# Altium schematic symbol library 20210518.SchLib: 325 symbols (part 2 of 3)
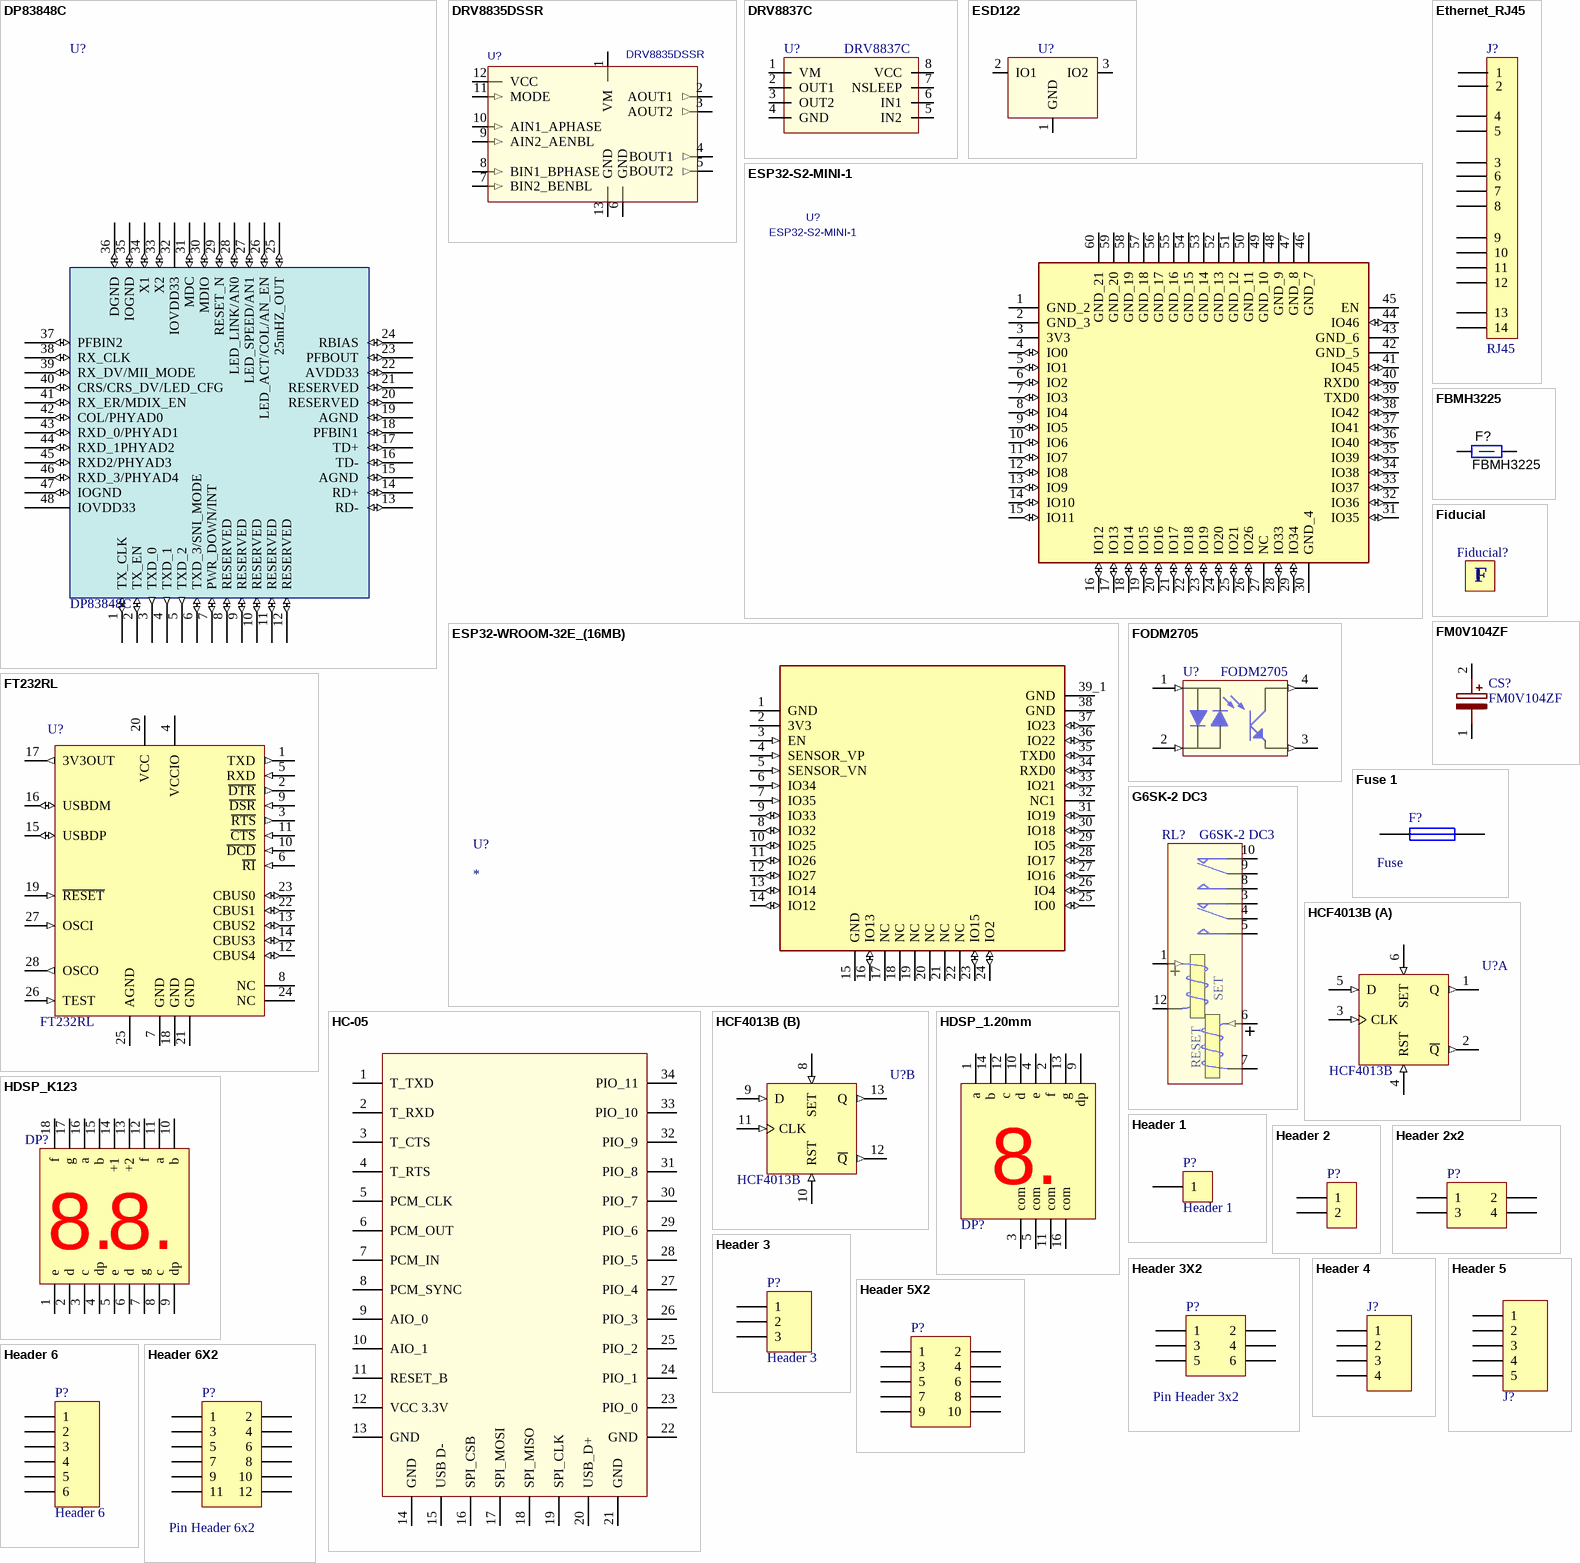
[diagram p14: symbols DP83848C to Header 6X2]

## Header 6X2
designator P?, comment Pin Header 6x2
Header, 6-Pin, Dual row; Value: Pin Header 6x2
footprint HDR2X6 (Connector; Header; 6x2 Position)
signal-integrity model Connector
footprint HDR2X6 - dar (Connector; Header; 6x2 Position,dar aralıklı)
pins: 1, 2, 3, 4, 5, 6, 7, 8, 9, 10, 11, 12

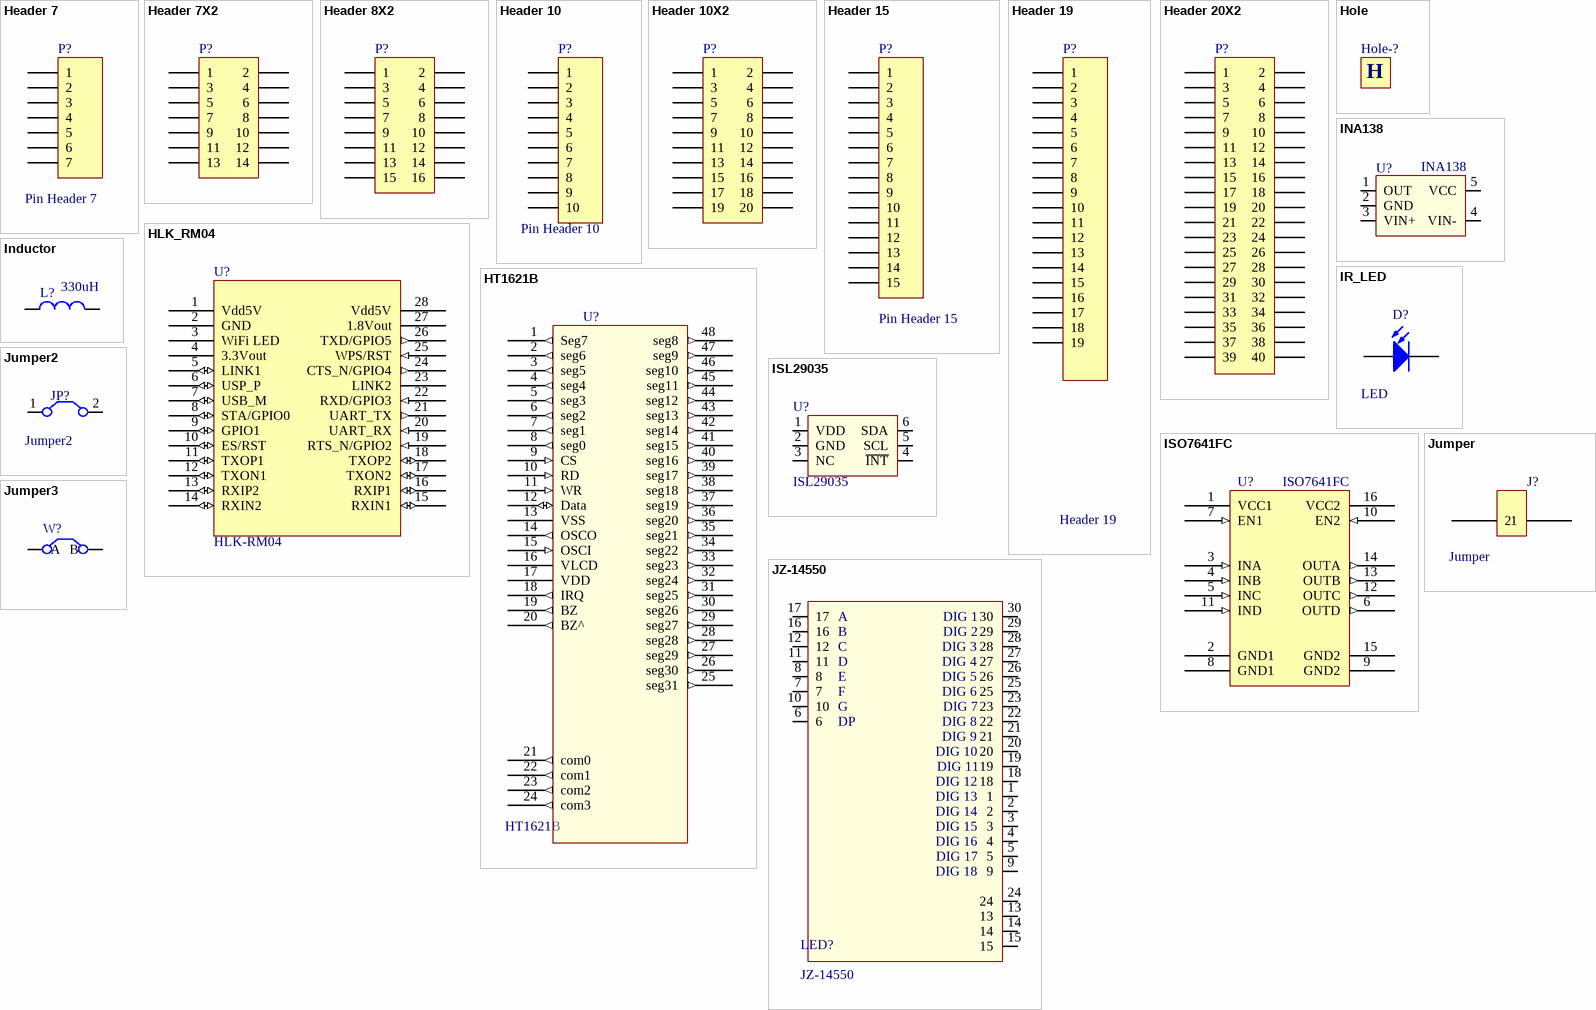
[diagram p4: symbols Header 7 to JZ-14550]

## Header 7
designator P?, comment Pin Header 7
Header, 7-Pin; Value: Pin Header 7
footprint HDR1X7 (Connector; Header; 7 Position)
signal-integrity model Connector
footprint HDR1X7 - Wide (Connector; Header; 7 Position - Wide)
footprint HDR1X7-1.27mm - Right (Connector; Header; 7 Position; 1.27mm pitch)
footprint HDR1X7-1.27mm (Connector; Header; 7 Position; 1.27mm pitch)
pins: 1, 2, 3, 4, 5, 6, 7

## Header 7X2
designator P?, comment Pin Header 7x2  (value not drawn)
Header, 7-Pin, Dual row; Value: Pin Header 7x2; ComponentLink2Description: AX; ComponentLink3Description: EKONPHE
signal-integrity model Connector
footprint HDR2X7 (Connector; Header; 7x2 Position)
footprint BOX_HDR2X7 (Connector; Box Header; 7x2 Position)
footprint CON7x2 (4.5mm aralıklı)
footprint HDR2X7 - dar (Connector; Header; 6x2 Position,pitch:2.00mm)
pins: 1, 2, 3, 4, 5, 6, 7, 8, 9, 10, 11, 12, 13, 14

## Header 8X2
designator P?, comment Pin Header 8x2  (value not drawn)
Header, 8-Pin, Dual row; Value: Pin Header 8x2; ComponentLink2Description: AX; ComponentLink3Description: EKONPHE
signal-integrity model Connector
footprint HDR2X8 (Connector; Header; 8x2 Position)
pins: 1, 2, 3, 4, 5, 6, 7, 8, 9, 10, 11, 12, 13, 14, 15, 16

## Header 10
designator P?, comment Pin Header 10
Header, 10-Pin; Value: Pin Header 10
signal-integrity model Connector
footprint HDR10 -3.81mm pitch (Connector; Header; 10 Position)
footprint PCBCon 10Pin DIP (10 pin PCB Connecion point 2mm*10)
footprint PCBCon 10Pin SMD (10 pin PCB Connecion point 2mm*10)
pins: 1, 2, 3, 4, 5, 6, 7, 8, 9, 10

## Header 10X2
designator P?, comment Pin Header 10X2  (value not drawn)
Header, 10x2-Pin, Dual row; Value: Pin Header 10X2; ComponentLink2Description: AX; ComponentLink3Description: EKONPHE
signal-integrity model Connector
footprint BOX_HDR2X10 (Connector; Box Header; 10x2 Position)
pins: 1, 2, 3, 4, 5, 6, 7, 8, 9, 10, 11, 12, 13, 14, 15, 16, 17, 18, 19, 20

## Header 15
designator P?, comment Pin Header 15
Header, 15-Pin; Value: Pin Header 15
signal-integrity model Connector
footprint PCBCon 15Pin DIP (15 pin PCB Connecion point 2.54mm*15)
pins: 1, 2, 3, 4, 5, 6, 7, 8, 9, 10, 11, 12, 13, 14, 15

## Header 19
designator P?
Header, 19-Pin; LatestRevisionDate: 17-Jul-2002; LatestRevisionNote: Re-released for DXP Platform.; Publisher: Altium Limited; Value: Header 19; ComponentLink2Description: AX; ComponentLink3Description: EKONPHE
footprint HDR19 (Connector; Header; 19 Position)
pins: 1, 2, 3, 4, 5, 6, 7, 8, 9, 10, 11, 12, 13, 14, 15, 16, 17, 18, 19

## Header 20X2
designator P?, comment Pin Header 10X2  (value not drawn)
Header, 10x2-Pin, Dual row; Value: Pin Header 10X2; ComponentLink2Description: AX; ComponentLink3Description: EKONPHE
footprint HDR2X20 (Connector; Header; 200x2 Position)
footprint HDR2X20-FM (Connector; Header; 200x2 Position)
pins: 1, 2, 3, 4, 5, 6, 7, 8, 9, 10, 11, 12, 13, 14, 15, 16, 17, 18, 19, 20, 21, 22, 23, 24, 25, 26, 27, 28, 29, 30, 31, 32, 33, 34, 35, 36, 37, 38, 39, 40

## HLK_RM04
designator U?, comment HLK-RM04
HiLink HLK-RM04 Serial2WiFi Router; Value: HLK-RM04
footprint HLK-RM04
pins: 1 Vdd5V (power), 2 GND (power), 3 WiFi LED (power), 4 3.3Vout (power), 5 LINK1 (io), 6 USP_P (io), 7 USB_M (io), 8 STA/GPIO0 (io), 9 GPIO1 (io), 10 ES/RST (io), 11 TXOP1 (io), 12 TXON1 (io), 13 RXIP2 (io), 14 RXIN2 (io), 15 RXIN1 (io), 16 RXIP1 (io), 17 TXON2 (io), 18 TXOP2 (io), 19 RTS_N/GPIO2 (in), 20 UART_RX (in), 21 UART_TX (out), 22 RXD/GPIO3 (in), 23 LINK2, 24 CTS_N/GPIO4 (out), 25 WPS/RST (in), 26 TXD/GPIO5 (out), 27 1.8Vout (power), 28 Vdd5V

## Hole
designator Hole-?  (value not drawn)  (no BOM)
Value: Hole
signal-integrity model Connector
footprint HOLE_3HL_7D (Hole, 3mm hole, 7mm total dimention with copper)
footprint HOLE_4HL_8D (Hole, 3mm hole, 7mm total dimention with copper)
text: H

## HT1621B
designator U?
LCD Driver; ComponentLink2Description: SMD; ComponentLink3Description: EICHT1621BSMD; Value: HT1621B
footprint SSOP48 (SOP, 48-Leads, Body 16,2x7,6mm (max), Pitch 0,63mm, IPC Medium Density)
pins: 1 Seg7 (out) "SEG7", 2 seg6 (out), 3 seg5 (out), 4 seg4 (out), 5 seg3 (out), 6 seg2 (out), 7 seg1 (out), 8 seg0 (out), 9 CS (in), 10 RD (in), 11 WR (in), 12 Data (io), 13 VSS (power), 14 OSCO (out), 15 OSCI (in), 16 VLCD (power), 17 VDD (power), 18 IRQ (out), 19 BZ (out), 20 BZ^ (out), 21 com0 (out), 22 com1 (out), 23 com2 (out), 24 com3 (out), 25 seg31 (out), 26 seg30 (out), 27 seg29 (out), 28 seg28 (out), 29 seg27 (out), 30 seg26 (out), 31 seg25 (out), 32 seg24 (out), 33 seg23 (out), 34 seg22 (out), 35 seg21 (out), 36 seg20 (out), 37 seg19 (out), 38 seg18 (out), 39 seg17 (out), 40 seg16 (out), 41 seg15 (out), 42 seg14 (out), 43 seg13 (out), 44 seg12 (out), 45 seg11 (out), 46 seg10 (out), 47 seg9 (out), 48 seg8 (out)

## INA138
designator U?
INA1x8 High-Side Measurement Current Shunt Monitor
footprint SOT23-5 (SOT23, 5-Leads, Body 3,0x3,0mm (max), Pitch 0,95mm, IPC Low Density)
pins: 1 OUT, 2 GND, 3 VIN+, 4 VIN-, 5 VCC

## Inductor
designator L?, comment 330uH
Inductor; ComponentLink2Description: AX; ComponentLink3Description: EL0330UHAX; Value: 330uH
simulation model INDUCTOR (Inductor)
signal-integrity model Inductor
footprint STD_RAD_5Px0.8HLx10.1Dx10H (Electrolitic Radial Capacitor, 5mm pin space, 0.8mm Hole, 10.1mm diametre, 10 height)
footprint Inductor_MS127
footprint L_220uH (SMD inductor)
footprint SER2915
footprint SER1360 (Coilcraft)
footprint STD_RAD_5Px1.0HLx10.1Dx10H (Inductor, 5mm pin space, 1mm Hole, 10.1mm diameter, 10 height)
footprint SRP1245 (SRP1245 Series Bourns Inductor)
footprint STD_RAD_6Px1.0HLx10.1Dx10H - duplicate (Inductor, 5mm pin space, 1mm Hole, 10.1mm diameter, 10 height)
footprint Inductor_SRU3011 (SODFL, 2-Leads, IPC Medium Density)
footprint INDUCTOR_SRR1260 (Precision Wire Wound Inductor, 2-Leads, Body 12,50x12,50mm, IPC Medium Density)
footprint Inductor_LQH32PN (Inductor Murata_1210)
footprint ASPI-8040S (Abracon LLC - ASPI-8040S)
pins: 1, 2

## IR_LED
designator D?, comment LED
IR Receiver LED; Published: 8-Jun-2000; LatestRevisionDate: 08-Jul-2005; LatestRevisionNote: Mech Layer 1 removed.; PackageReference: LED-0; Publisher: Altium Limited; PackageDescription: LED; 2 Leads; ComponentLink2Description: AX; Value: LED
simulation model LED0 (Diode)
footprint LED_2.5Px0.8HLx5RLx8.7H (Radial, Round with Domed Top,  2 Position, 2.5mm pin space, 0.8mm hole, Body 5mm Radius, Height 8.7mm)
footprint LED-SMD (0805 Kılıf SMD Led)
pins: 1 A, 2 K

## ISL29035
designator U?
Integrated Digital Light Sensor with Interrupt; Published: 24-Mar-1999; LatestRevisionDate: 09-01-2017; DatasheetVersion: Nov-2009; PackageReference: SMD-6; Publisher: Altium Limited
footprint ODFN 6pin (TSOP, 8-Leads, Body 3x3mm, Pitch 0.65mm, IPC High Density)
pins: 1 VDD "Anode", 2 GND "Cathode", 3 NC "Collector", 4 ~{INT} "Collector", 5 SCL (power) "VCC", 6 SDA (power) "VCC"

## ISO7641FC
designator U?
Digital Isolator; Value: ISO7641FC
footprint SOIC16W (SOIC, 16-Leads, Body 10.5x7.6mm (max), Pitch 1.27mm, IPC Medium Density)
pins: 1 VCC1 (power), 2 GND1 (power), 3 INA (in), 4 INB (in), 5 INC (in), 6 OUTD (out), 7 EN1 (in), 8 GND1 (power), 9 GND2 (power), 10 EN2 (in), 11 IND (in), 12 OUTC (out), 13 OUTB (out), 14 OUTA (out), 15 GND2 (power), 16 VCC2 (power)

## Jumper
designator J?
Value: Jumper
footprint Jumper
pins: 1, 2

## Jumper2
designator JP?
Pin header takmaya müsait 2'li; ComponentLink2Description: AX; TemKodu: *; Value: Jumper2
footprint HDR2 (Connector; Header; 2 Position)
pins: 1 C1, 2 C2

## Jumper3
designator W?  (no BOM)
Jumper Wire
footprint JMP_SET2 (Jumper 2pin; setting jumper)
pins: 1 A, 2 B

## JZ-14550
designator LED?
footprint JZ-14550 / Thinner (Slim Case)
footprint JZ-14550
footprint JZ-14550 - ince
pins: 1, 2, 3, 4, 5, 6, 7, 8, 9, 10, 11, 12, 13, 14, 15, 16, 17, 18, 19, 20, 21, 22, 23, 24, 25, 26, 27, 28, 29, 30
text: A; DIG 1; B; DIG 2; C; DIG 3; D; DIG 4; E; DIG 5; F; DIG 6; G; DIG 7; DP; DIG 8; DIG 9; DIG 10; DIG 11; DIG 12; DIG 13; DIG 14; DIG 15; DIG 16; DIG 17; DIG 18

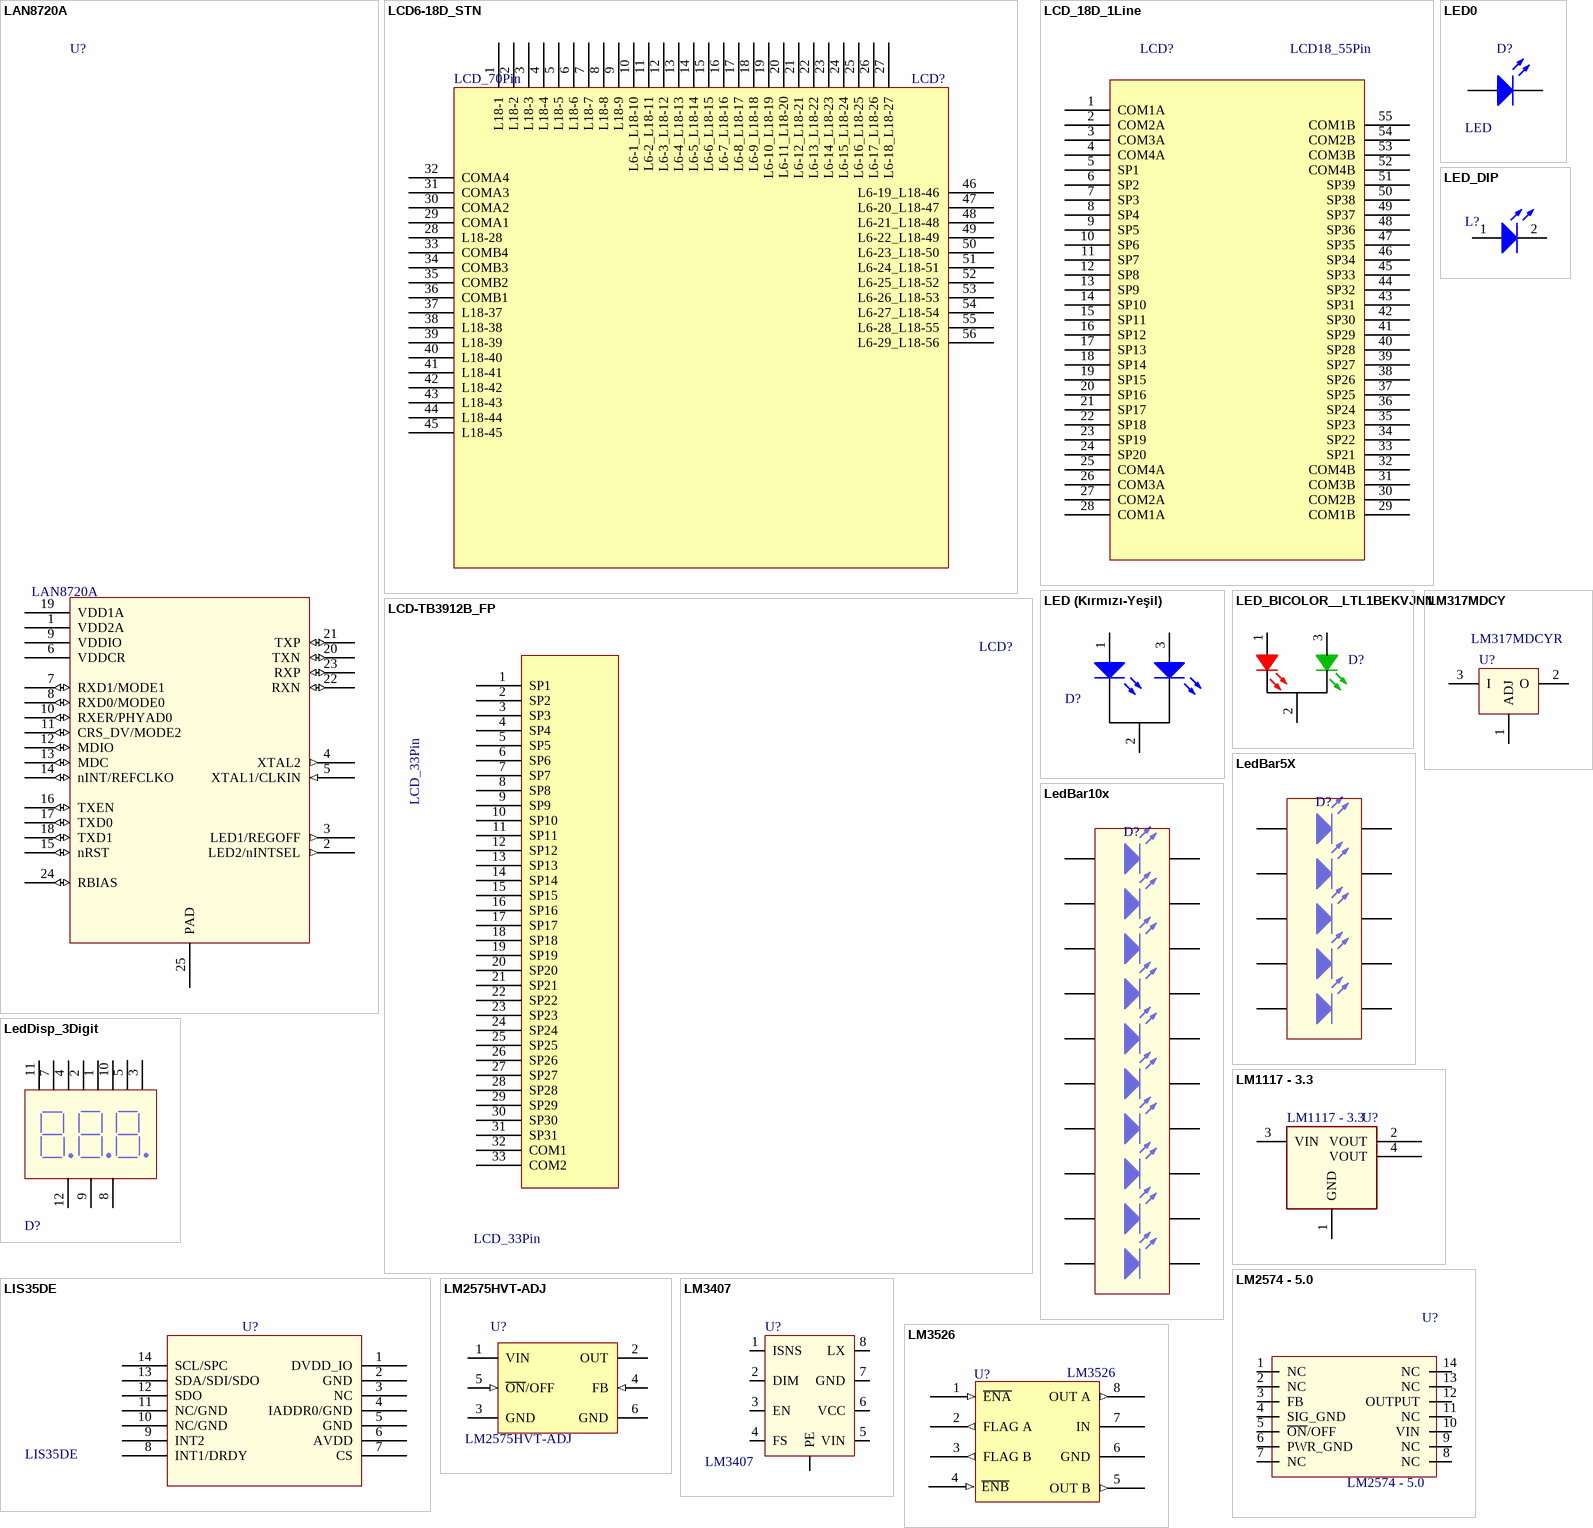
[diagram p5: symbols LAN8720A to LM3526]

## LAN8720A
designator U?
Single Port 10/100 Mb/s Ethernet Physical Layer Transceiver; Value: LAN8720A; ComponentLink2Description: SMD; ComponentLink3Description: *
footprint QFN24 (QFN, 24-Leads, Body 4,00x4,00mm, Pitch 0,50mm, Thermal Pad 2,50x2,50mm, IPC Medium Density)
pins: 1 VDD2A (power), 2 LED2/nINTSEL (out), 3 LED1/REGOFF (out), 4 XTAL2 (out), 5 XTAL1/CLKIN (in), 6 VDDCR (power), 7 RXD1/MODE1 (io), 8 RXD0/MODE0 (io), 9 VDDIO (power), 10 RXER/PHYAD0 (io), 11 CRS_DV/MODE2 (io), 12 MDIO (io), 13 MDC (io), 14 nINT/REFCLKO (io), 15 nRST (io), 16 TXEN (io), 17 TXD0 (io), 18 TXD1 (io), 19 VDD1A (power), 20 TXN (io), 21 TXP (io), 22 RXN (io), 23 RXP (io), 24 RBIAS (io), 25 PAD (power)

## LCD6-18D_STN
designator LCD?, comment LCD_70Pin
Custom Design 70Pin LCD; ComponentLink2Description: AX; Value: LCD_70Pin
footprint LCD6-18D_STN (Pazarcı için yapılan LCD)
pins: 1 L18-1, 2 L18-2, 3 L18-3, 4 L18-4, 5 L18-5, 6 L18-6, 7 L18-7, 8 L18-8, 9 L18-9, 10 L6-1_L18-10, 11 L6-2_L18-11, 12 L6-3_L18-12, 13 L6-4_L18-13, 14 L6-5_L18-14, 15 L6-6_L18-15, 16 L6-7_L18-16, 17 L6-8_L18-17, 18 L6-9_L18-18, 19 L6-10_L18-19, 20 L6-11_L18-20, 21 L6-12_L18-21, 22 L6-13_L18-22, 23 L6-14_L18-23, 24 L6-15_L18-24, 25 L6-16_L18-25, 26 L6-17_L18-26, 27 L6-18_L18-27, 28 L18-28, 29 COMA1, 30 COMA2, 31 COMA3, 32 COMA4, 33 COMB4, 34 COMB3, 35 COMB2, 36 COMB1, 37 L18-37, 38 L18-38, 39 L18-39, 40 L18-40, 41 L18-41, 42 L18-42, 43 L18-43, 44 L18-44, 45 L18-45, 46 L6-19_L18-46, 47 L6-20_L18-47, 48 L6-21_L18-48, 49 L6-22_L18-49, 50 L6-23_L18-50, 51 L6-24_L18-51, 52 L6-25_L18-52, 53 L6-26_L18-53, 54 L6-27_L18-54, 55 L6-28_L18-55, 56 L6-29_L18-56

## LCD-TB3912B_FP
designator LCD?, comment LCD_33Pin
Custom Design 33Pin LCD; ComponentLink2Description: AX; Value: LCD_33Pin
footprint LCD-TB3912B_FP (33 pin (2x31) , 6 digit , custom LCD)
pins: 1 SP1, 2 SP2, 3 SP3, 4 SP4, 5 SP5, 6 SP6, 7 SP7, 8 SP8, 9 SP9, 10 SP10, 11 SP11, 12 SP12, 13 SP13, 14 SP14, 15 SP15, 16 SP16, 17 SP17, 18 SP18, 19 SP19, 20 SP20, 21 SP21, 22 SP22, 23 SP23, 24 SP24, 25 SP25, 26 SP26, 27 SP27, 28 SP28, 29 SP29, 30 SP30, 31 SP31, 32 COM1, 33 COM2

## LCD_18D_1Line
designator LCD?, comment LCD18_55Pin
Custom Design 55Pin LCD, 1 Line; ComponentLink2Description: AX; Value: LCD18_55Pin
pins: 1 COM1A, 2 COM2A, 3 COM3A, 4 COM4A, 5 SP1, 6 SP2, 7 SP3, 8 SP4, 9 SP5, 10 SP6, 11 SP7, 12 SP8, 13 SP9, 14 SP10, 15 SP11, 16 SP12, 17 SP13, 18 SP14, 19 SP15, 20 SP16, 21 SP17, 22 SP18, 23 SP19, 24 SP20, 25 COM4A, 26 COM3A, 27 COM2A, 28 COM1A, 29 COM1B, 30 COM2B, 31 COM3B, 32 COM4B, 33 SP21, 34 SP22, 35 SP23, 36 SP24, 37 SP25, 38 SP26, 39 SP27, 40 SP28, 41 SP29, 42 SP30, 43 SP31, 44 SP32, 45 SP33, 46 SP34, 47 SP35, 48 SP36, 49 SP37, 50 SP38, 51 SP39, 52 COM4B, 53 COM3B, 54 COM2B, 55 COM1B

## LED0
designator D?, comment LED
Typical INFRARED GaAs LED; Published: 8-Jun-2000; LatestRevisionDate: 08-Jul-2005; LatestRevisionNote: Mech Layer 1 removed.; PackageReference: LED-0; Publisher: Altium Limited; PackageDescription: LED; 2 Leads; ComponentLink2Description: AX; Value: LED
simulation model LED0 (Diode)
footprint LED_2.5Px0.8HLx5RLx8.7H (Radial, Round with Domed Top,  2 Position, 2.5mm pin space, 0.8mm hole, Body 5mm Radius, Height 8.7mm)
footprint LED-SMD (0805 Kılıf SMD Led)
footprint LED_3mm
pins: 1 A, 2 K

## LED (Kırmızı-Yeşil)
designator D?, comment Kırmızı-Yeşil LED  (value not drawn)
Dual Colour LED; Value: Kırmızı-Yeşil LED; ComponentLink2Description: AX; ComponentLink3Description: *
footprint MandoLED (Dual Colour LED)
pins: 1 A (power) "Green", 2 K (power), 3 A (power) "Red"

## LED_BICOLOR__LTL1BEKVJNN
designator D?, comment LTL1BEKVJNN  (value not drawn)
LED GREEN/RED DIFFUSED T/H; Manufacturer: Lite-On; Configuration: Common Cathode; Illumination Color: Red, Green; LED Size: T-1 (3 mm); Lens Shape: Dome; Luminous Intensity: 110 mcd; Viewing Angle: 45 deg; If - Forward Current: 20 mA; Operating Supply Voltage: 2 V, 2.1 V; Wavelength/Color Temperature: 639 nm, 575 nm; Supplier 1: Mouser; Manufacturer Part Number: LTL1BEKVJNN; RoHS: RoHS Compliant; Category: Standard LEDs - Through Hole; Stock 1: 27767; Pricing 1: 1=0.380, 10=0.220, 100=0.145, 1000=0.100, 2500=0.084, 10000=0.078, 25000=0.075, 50000=0.073, 100000=0.070 (USD); Package / Case: T-1 (3 mm); Packaging: Bulk; Product: Bi-Color LEDs; Brand: Lite-On; Mounting Style: Through Hole; Lens Dimensions: 3 mm; Lens Transparency: Diffused; Maximum Operating Temperature: + 100 C; Minimum Operating Temperature: - 40 C; Product Type: LED - Standard; Standard Pack Qty: 1000; Subcategory: LEDs; RoHS - Mouser: Y; Minimum Order Quantity: 1; Reeling: False; ComponentLink1URL: https://www.mouser.com/datasheet/2/239/LTL1BEKVJNN-1142081.pdf; ComponentLink1Description: https://www.mouser.com/datasheet/2/239/LTL1BEKVJNN-1142081.pdf; Supplier Part Number 1: 859-LTL1BEKVJNN
footprint LED_BICOLOR_3mm
pins: 1 R, 2 K, 3 G

## LED_DIP
designator L?, comment Led  (value not drawn)
footprint LED_3mm
pins: 1 A (power) "Green", 2 K (power) "Green"

## LedBar5X
designator D?
BARGRAPH 5-SEGMENT YLW; Manufacturer Part Number: XGUYX5D; Manufacturer: SunLED; Digi-Key Part Number: 1497-1087-5-ND
footprint XGxxX5D (Flat Top, 5.00mm x 1.60mm)
pins: 1 A, 2 A, 3 A, 4 A, 5 A, 6 K, 7 K, 8 K, 9 K, 10 K

## LedBar10x
designator D?
LED BAR GRAPH 10-SEGMENT RED; Manufacturer Part Number: XGUYX5D; Manufacturer: SunLED; Digi-Key Part Number: LTA-1000HR
footprint LTA-1000HR (10 Wide, DIP Red (x 10) Tinted)
pins: 1 A, 2 A, 3 A, 4 A, 5 A, 6 A, 7 A, 8 A, 9 A, 10 A, 11 K, 12 K, 13 K, 14 K, 15 K, 16 K, 17 K, 18 K, 19 K, 20 K

## LedDisp_3Digit
designator D?  (value not drawn)
3 Digit Seven Segment; Value: LedDisp_3Digit
footprint LedDisp_3Digit-7mm
pins: 1 E, 2 D, 3 DP, 4 C, 5 G, 6 NC hidden, 7 B, 8 COM3, 9 COM2, 10 F, 11 A, 12 COM1

## LIS35DE
designator U?
3 eksen Acceloremeter; ComponentLink2Description: SMD; Value: LIS35DE
footprint LGA14
pins: 1 DVDD_IO, 2 GND, 3 NC, 4 IADDR0/GND, 5 GND, 6 AVDD, 7 CS, 8 INT1/DRDY, 9 INT2, 10 NC/GND, 11 NC/GND, 12 SDO, 13 SDA/SDI/SDO, 14 SCL/SPC

## LM317MDCY
designator U?, comment LM317MDCYR
IC REG LINEAR ADJ 0.5A SOT223; Manufacturer: Texas Instruments; Regulator Topology: Positive Adjustable; Current - Output: 500mA; Voltage - Output: 1.25 V ~ 37 V; Voltage - Input: 4.2 V ~ 40 V; Packaging: Tape & Reel (TR); Manufacturer Part Number: LM317MDCYR; Supplier: Digi-Key; Part Status: Active; RoHS: RoHS Compliant; Supplier Device Package: SOT-223-4; Package / Case: TO-261-4, TO-261AA; Voltage - Dropout (Typical): -; Mounting Type: Surface Mount; Current - Limit (Min): -; Operating Temperature: 0°C ~ 125°C; Category: Integrated Circuits (ICs); ComponentLink1URL: http://www.ti.com/lit/ds/symlink/lm317m.pdf; ComponentLink1Description: http://www.ti.com/lit/ds/symlink/lm317m.pdf; Pricing: 2500=0.319, 5000=0.297, 12500=0.286 (USD); Supplier Part Number: 296-12631-2-ND
footprint SOT223 (SOT223, 4-Leads, Body 6,7x7,3mm (max), Pitch 2,30mm, IPC Low Density)
pins: 1 ADJ (power), 2 O (power), 3 I (power)

## LM1117 - 3.3
designator U?
800mA 3.3V Low Dropout Linear Regulator; Value: LM1117 - 3.3; ComponentLink2Description: SMD; ComponentLink3Description: *
footprint SOT223 (SOT223, 4-Leads, Body 6,7x7,3mm (max), Pitch 2,30mm, IPC Low Density)
pins: 1 GND (power), 2 VOUT, 3 VIN (power), 4 VOUT (power)

## LM2574 - 5.0
designator U?
swich mode step down converter
footprint NPA0014B (TI - LM2574 - SMD - NPA0014B)
pins: 1 NC, 2 NC, 3 FB, 4 SIG_GND, 5 ~{ON}/OFF, 6 PWR_GND, 7 NC, 8 NC, 9 NC, 10 VIN, 11 NC, 12 OUTPUT, 13 NC, 14 NC

## LM2575HVT-ADJ
designator U?
SIMPLE SWITCHER 1A Step-Down Voltage Regulator; Manufacturer: National Semiconductor; PackageTopMarking: NSUZXYTT*LM2575HVT*-ADJ P+; PowerWise: N; FirstPublished: 4-Dec-2008; DatasheetVersion: Apr-2007; PackageVersion: revJ, Jan-1992; PackageReference: TO-220-5; Publisher: Altium Limited; PackageDescription: TO-220, Molded, 5 Lead, Straight; CompType: Switcher; PartNumber: LM2575HVT-ADJ; RoHS: O; PinCount: 5; DigiKeyPartNumber: LM2575HVT-ADJ-ND; Code_JEDEC: TO-220-AB; ComponentLink1Description: LM2575HV Datasheet; ComponentLink1URL: http://www.national.com/ds/LM/LM2575HV.pdf; ComponentLink2URL: http://www.national.com/pf/LM/LM2575HV.html; ComponentLink3Description: T05A Package Page; ComponentLink3URL: http://www.national.com/packaging/folders/t05a.html; ComponentLink2Description: AX; Value: LM2575HVT-ADJ
footprint TO-220-5 (TO220-5, Thru-Hole, Horizontal, PCB HeatSink; 5 In-Line Leads; Pitch 1.70 mm)
footprint TO-263_MD (D2-PAK, 6-Leads, Body 8.6x10.2mm, Pitch 1.7mm, Lead Span 14.1mm, IPC Medium Density)
pins: 1 VIN (power), 2 OUT (power), 3 GND (power), 4 FB (in), 5 ~{ON}/OFF (in), 6 GND (power)

## LM3407
designator U?
Constant Current Output Floating Buck Switching Converter; Published: 24-Mar-1999; LatestRevisionDate: 09-01-2017; DatasheetVersion: Nov-2009; PackageReference: SMD-8; Publisher: Altium Limited
footprint MSOP-8-PowerPAD (TSOP, 8-Leads, Body 3x3mm, Pitch 0.65mm, IPC Low Density)
pins: 1 ISNS "Anode", 2 DIM "Cathode", 3 EN "Collector", 4 FS "Collector", 5 VIN (power) "VCC", 6 VCC (power), 7 GND (power) "VCC", 8 LX (power) "VCC", PE (power) "GND"

## LM3526
designator U?
Dual Port USB Power Switch and Over-Current Protection; Value: LM3526; SMD: ComponentLink2Description
footprint SOIC8 (SOIC, 8-Leads, Body 5,0x4,0mm (max), Pitch 1,27mm, IPC Low Density)
pins: 1 ~{ENA} (in), 2 FLAG A (out), 3 FLAG B (out), 4 ~{ENB} (in), 5 OUT B (out), 6 GND (power), 7 IN, 8 OUT A (out)

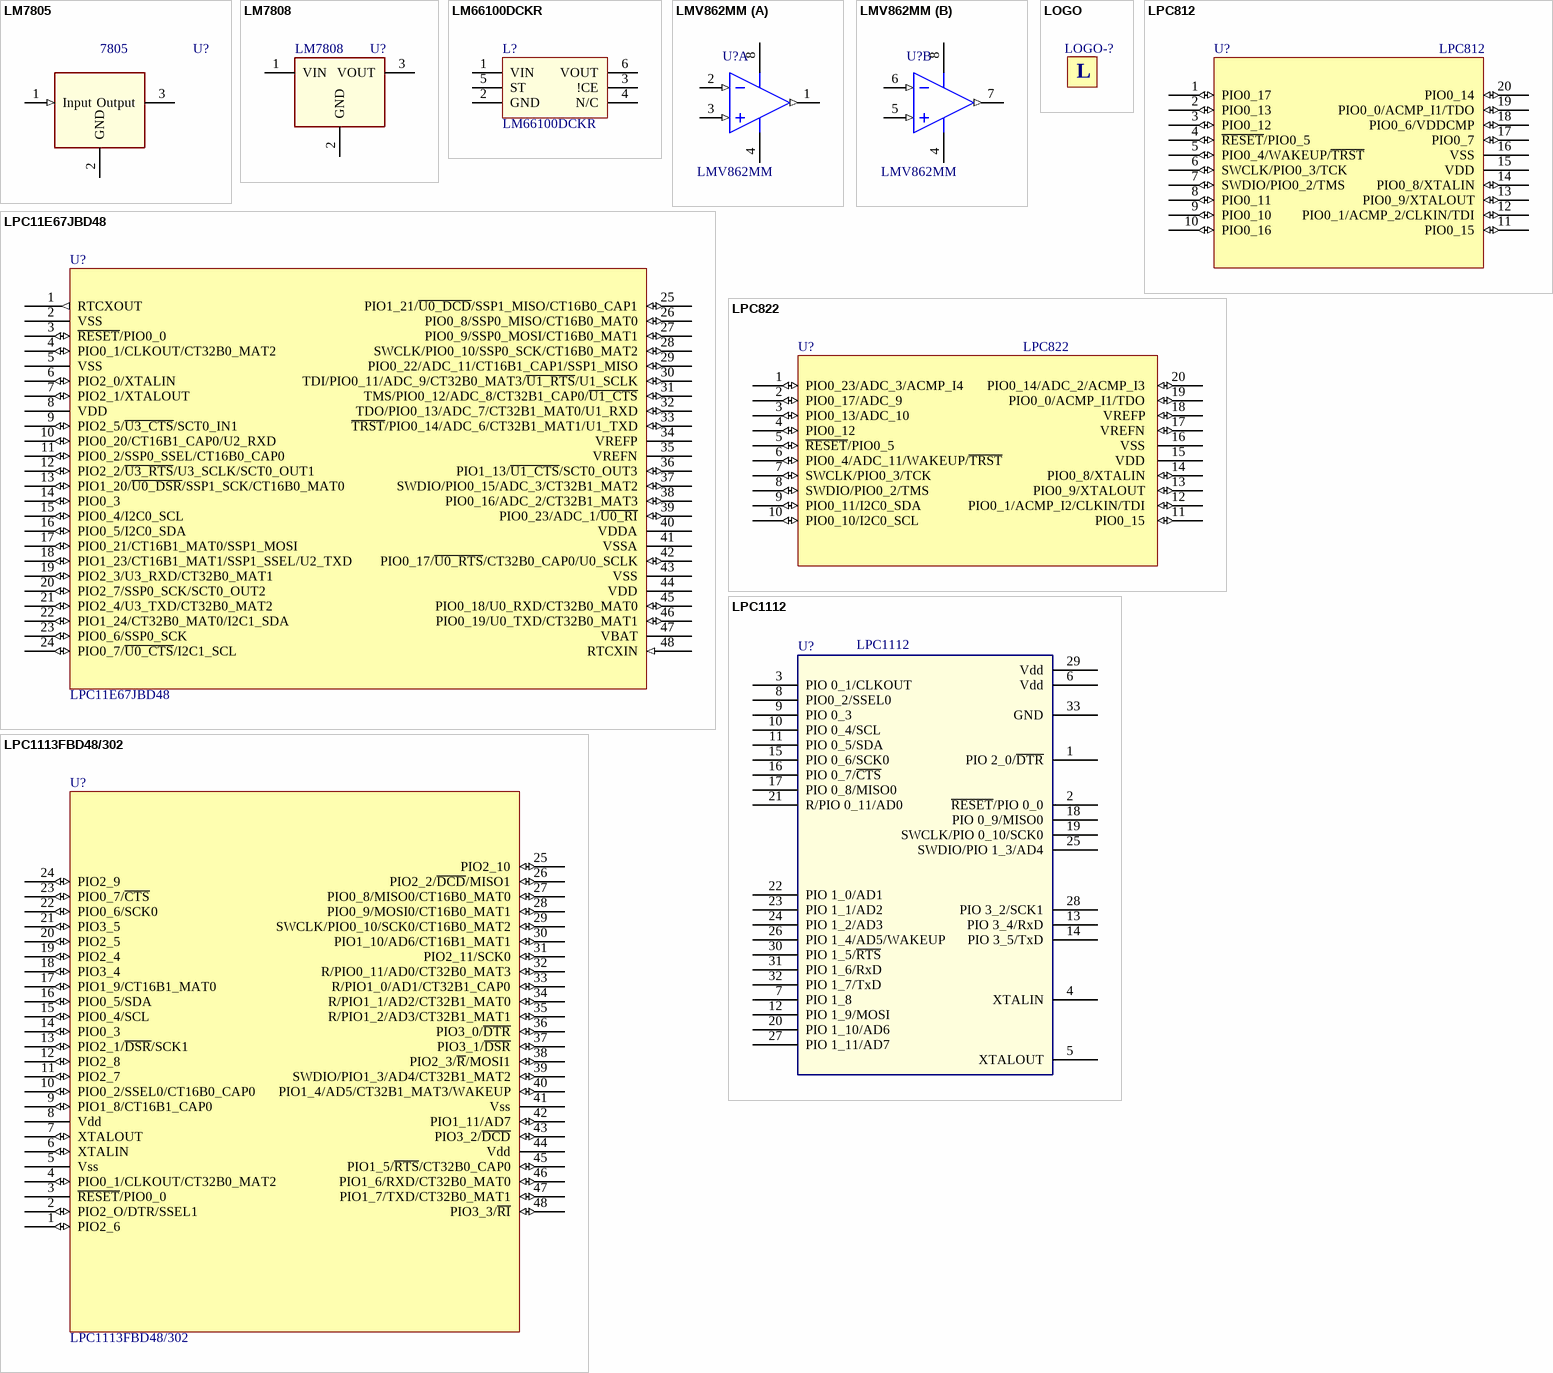
[diagram p6: symbols LM7805 to LPC1113FBD48/302]

## LM7805
designator U?, comment 7805
7805 regulator; Producer: National; ComponentLink2Description: AX; Value: 7805
footprint TO220
pins: 1 Input (in), 2 GND (power), 3 Output (power)

## LM7808
designator U?
8V Linear Regulator; Value: LM7808; ComponentLink2Description: SMD; ComponentLink3Description: *
footprint TO220 - yatik
pins: 1 VIN (power), 2 GND (power), 3 VOUT

## LM66100DCKR
designator L?
OR Controller  P-Channel 1:1 SC-70-6
footprint SC70-6
pins: 1 VIN (oc), 2 GND (oc), 3 !CE (oc), 4 N/C, 5 ST (oc), 6 VOUT (oc)

## LMV862MM
designator U?
Dual 30 MHz Low Power CMOS, EMI Hardened Operational Amplifiers; Manufacturer: National Semiconductor; PackageTopMarking: ZXTT*AJ5A; PowerWise: Y; Published: 4-Dec-2008; DatasheetVersion: Jul-2008; PackageVersion: revF, Apr-2008; PackageReference: MUA08A; Publisher: Altium Limited; PackageDescription: MINI SOIC, .118 x .118 x .034in, 8 Lead, .0256in Pitch; CompType: Amplifiers; PartNumber: LMV862MM; RoHS: Y; PinCount: 8; DigiKeyPartNumber: LMV862MMCT-ND; Code_JEDEC: MO-187-AA; ComponentLink1Description: LMV862 Datasheet; ComponentLink1URL: http://www.national.com/ds/LM/LMV862.pdf; ComponentLink2Description: LMV862 Web Page; ComponentLink2URL: http://www.national.com/pf/LM/LMV862.html; ComponentLink3Description: MUA08A Package Page; ComponentLink3URL: http://www.national.com/packaging/folders/mua08a.html; ComponentLink2Description: SMD; Value: LMV862MM
footprint MUA08A_N (TSOP, 8-Leads, Body 3x3mm, Pitch 0.65mm, IPC Medium Density)
footprint MUA08A_L (TSOP, 8-Leads, Body 3x3mm, Pitch 0.65mm, IPC High Density)
footprint MUA08A_M (TSOP, 8-Leads, Body 3x3mm, Pitch 0.65mm, IPC Low Density)
pins on every part: 4 V- (power), 8 V+ (power)
part A pins: 1 OUTA (out), 2 INA- (in), 3 INA+ (in)
part B pins: 5 INB+ (in), 6 INB- (in), 7 OUTB (out)

## LOGO
designator LOGO-?, comment Logo  (value not drawn)  (no BOM)
Value: Logo
footprint Logo-Sinapstek
footprint Logo-TMD
text: L

## LPC11E67JBD48
designator U?
32-bit ARM Cortex-M0+ microcontroller; up to 256 kB flash  and 36 kB SRAM; 4 kB EEPROM; 12-bit ADC; Value: LPC11E67JBD48
footprint LQFP48 (LQFP, 48-Leads, Body 9,1x9,1mm (max), Pitch 0,50mm, IPC Medium Density)
pins: 1 RTCXOUT (out), 2 VSS (power), 3 ~{RESET}/PIO0_0 (io), 4 PIO0_1/CLKOUT/CT32B0_MAT2 (io), 5 VSS (power), 6 PIO2_0/XTALIN (io), 7 PIO2_1/XTALOUT (io), 8 VDD (power), 9 PIO2_5/~{U3_CTS}/SCT0_IN1 (io), 10 PIO0_20/CT16B1_CAP0/U2_RXD (io), 11 PIO0_2/SSP0_SSEL/CT16B0_CAP0 (io), 12 PIO2_2/~{U3_RTS}/U3_SCLK/SCT0_OUT1 (io), 13 PIO1_20/~{U0_DSR}/SSP1_SCK/CT16B0_MAT0 (io), 14 PIO0_3 (io), 15 PIO0_4/I2C0_SCL (io), 16 PIO0_5/I2C0_SDA (io), 17 PIO0_21/CT16B1_MAT0/SSP1_MOSI (io), 18 PIO1_23/CT16B1_MAT1/SSP1_SSEL/U2_TXD (io), 19 PIO2_3/U3_RXD/CT32B0_MAT1 (io), 20 PIO2_7/SSP0_SCK/SCT0_OUT2 (io), 21 PIO2_4/U3_TXD/CT32B0_MAT2 (io), 22 PIO1_24/CT32B0_MAT0/I2C1_SDA (io), 23 PIO0_6/SSP0_SCK (io), 24 PIO0_7/~{U0_CTS}/I2C1_SCL (io), 25 PIO1_21/~{U0_DCD}/SSP1_MISO/CT16B0_CAP1 (io), 26 PIO0_8/SSP0_MISO/CT16B0_MAT0 (io), 27 PIO0_9/SSP0_MOSI/CT16B0_MAT1 (io), 28 SWCLK/PIO0_10/SSP0_SCK/CT16B0_MAT2 (io), 29 PIO0_22/ADC_11/CT16B1_CAP1/SSP1_MISO (io), 30 TDI/PIO0_11/ADC_9/CT32B0_MAT3/~{U1_RTS}/U1_SCLK (io), 31 TMS/PIO0_12/ADC_8/CT32B1_CAP0/~{U1_CTS} (io), 32 TDO/PIO0_13/ADC_7/CT32B1_MAT0/U1_RXD (io), 33 ~{TRST}/PIO0_14/ADC_6/CT32B1_MAT1/U1_TXD (io), 34 VREFP (power), 35 VREFN (power), 36 PIO1_13/~{U1_CTS}/SCT0_OUT3 (io), 37 SWDIO/PIO0_15/ADC_3/CT32B1_MAT2 (io), 38 PIO0_16/ADC_2/CT32B1_MAT3 (io), 39 PIO0_23/ADC_1/~{U0_RI} (io), 40 VDDA (power), 41 VSSA (power), 42 PIO0_17/~{U0_RTS}/CT32B0_CAP0/U0_SCLK (io), 43 VSS (power), 44 VDD (power), 45 PIO0_18/U0_RXD/CT32B0_MAT0 (io), 46 PIO0_19/U0_TXD/CT32B0_MAT1 (io), 47 VBAT (power), 48 RTCXIN (in)

## LPC812
designator U?
NXP 32bit Cortex-M0+ MCU; Value: LPC812; ComponentLink2Description: SMD
footprint SOIC127P1030X265-20M (SOIC, 20-Leads, Body 12,80x7,50mm, Pitch 1,27mm, IPC Low Density)
footprint TSOP20 (TSOP, 20-Leads, Body 6,6x4,5mm (max), Pitch 0,65mm, IPC Medium Density)
pins: 1 PIO0_17 (io), 2 PIO0_13 (io), 3 PIO0_12 (io), 4 ~{RESET}/PIO0_5 (io), 5 PIO0_4/WAKEUP/~{TRST} (io), 6 SWCLK/PIO0_3/TCK (io), 7 SWDIO/PIO0_2/TMS (io), 8 PIO0_11 (io), 9 PIO0_10 (io), 10 PIO0_16 (io), 11 PIO0_15 (io), 12 PIO0_1/ACMP_2/CLKIN/TDI (io), 13 PIO0_9/XTALOUT (io), 14 PIO0_8/XTALIN (io), 15 VDD (power), 16 VSS (power), 17 PIO0_7 (io), 18 PIO0_6/VDDCMP (io), 19 PIO0_0/ACMP_I1/TDO (io), 20 PIO0_14 (io)

## LPC822
designator U?
32-bit ARM Cortex-M0+ microcontroller; up to 32 kB flash and  8 kB SRAM; 12-bit ADC; comparator; Value: LPC822; ComponentLink2Description: SMD
footprint TSSOP20
pins: 1 PIO0_23/ADC_3/ACMP_I4 (io), 2 PIO0_17/ADC_9 (io), 3 PIO0_13/ADC_10 (io), 4 PIO0_12 (io), 5 ~{RESET}/PIO0_5 (io), 6 PIO0_4/ADC_11/WAKEUP/~{TRST} (io), 7 SWCLK/PIO0_3/TCK (io), 8 SWDIO/PIO0_2/TMS (io), 9 PIO0_11/I2C0_SDA (io), 10 PIO0_10/I2C0_SCL (io), 11 PIO0_15  (io), 12 PIO0_1/ACMP_I2/CLKIN/TDI  (io), 13 PIO0_9/XTALOUT  (io), 14 PIO0_8/XTALIN  (io), 15 VDD  (power), 16 VSS  (power), 17 VREFN  (io), 18 VREFP  (io), 19 PIO0_0/ACMP_I1/TDO  (io), 20 PIO0_14/ADC_2/ACMP_I3  (io)

## LPC1112
designator U?
32 bit Cortex M0 Microcontroller; Producer: NXP; ComponentLink2Description: SMD; Value: LPC1112
pins: 1 PIO 2_0/~{DTR} (power), 2 ~{RESET}/PIO 0_0 (power), 3 PIO 0_1/CLKOUT, 4 XTALIN, 5 XTALOUT (power), 6 Vdd (power), 7 PIO 1_8, 8 PIO0_2/SSEL0, 9 PIO 0_3, 10 PIO 0_4/SCL, 11 PIO 0_5/SDA, 12 PIO 1_9/MOSI, 13 PIO 3_4/RxD, 14 PIO 3_5/TxD, 15 PIO 0_6/SCK0, 16 PIO 0_7/~{CTS}, 17 PIO 0_8/MISO0 (power), 18 PIO 0_9/MISO0 (power), 19 SWCLK/PIO 0_10/SCK0, 20 PIO 1_10/AD6, 21 R/PIO 0_11/AD0, 22 PIO 1_0/AD1, 23 PIO 1_1/AD2, 24 PIO 1_2/AD3, 25 SWDIO/PIO 1_3/AD4, 26 PIO 1_4/AD5/WAKEUP, 27 PIO 1_11/AD7, 28 PIO 3_2/SCK1, 29 Vdd (power), 30 PIO 1_5/~{RTS}, 31 PIO 1_6/RxD, 32 PIO 1_7/TxD, 33 GND (power)

## LPC1113FBD48/302
designator U?
NXP 32bit ARM Cortex M0 MCU; Value: LPC1113FBD48/302; ComponentLink2Description: SMD; ComponentLink3Description: *
footprint LQFP48 (LQFP, 48-Leads, Body 9,1x9,1mm (max), Pitch 0,50mm, IPC Medium Density)
pins: 1 PIO2_6 (io), 2 PIO2_O/DTR/SSEL1 (io), 3 ~{RESET}/PIO0_0, 4 PIO0_1/CLKOUT/CT32B0_MAT2 (io), 5 Vss (power), 6 XTALIN (io), 7 XTALOUT (io), 8 Vdd (power), 9 PIO1_8/CT16B1_CAP0 (io), 10 PIO0_2/SSEL0/CT16B0_CAP0 (io), 11 PIO2_7 (io), 12 PIO2_8 (io), 13 PIO2_1/~{DSR}/SCK1 (io), 14 PIO0_3 (io), 15 PIO0_4/SCL (io), 16 PIO0_5/SDA (io), 17 PIO1_9/CT16B1_MAT0 (io), 18 PIO3_4 (io), 19 PIO2_4 (io), 20 PIO2_5 (io), 21 PIO3_5 (io), 22 PIO0_6/SCK0 (io), 23 PIO0_7/~{CTS} (io), 24 PIO2_9 (io), 25 PIO2_10 (io), 26 PIO2_2/~{DCD}/MISO1 (io), 27 PIO0_8/MISO0/CT16B0_MAT0 (io), 28 PIO0_9/MOSI0/CT16B0_MAT1 (io), 29 SWCLK/PIO0_10/SCK0/CT16B0_MAT2 (io), 30 PIO1_10/AD6/CT16B1_MAT1 (io), 31 PIO2_11/SCK0 (io), 32 R/PIO0_11/AD0/CT32B0_MAT3 (io), 33 R/PIO1_0/AD1/CT32B1_CAP0 (io), 34 R/PIO1_1/AD2/CT32B1_MAT0 (io), 35 R/PIO1_2/AD3/CT32B1_MAT1 (io), 36 PIO3_0/~{DTR} (io), 37 PIO3_1/~{DSR} (io), 38 PIO2_3/~{R}/MOSI1 (io), 39 SWDIO/PIO1_3/AD4/CT32B1_MAT2 (io), 40 PIO1_4/AD5/CT32B1_MAT3/WAKEUP (io), 41 Vss (power), 42 PIO1_11/AD7 (io), 43 PIO3_2/~{DCD} (io), 44 Vdd (power), 45 PIO1_5/~{RTS}/CT32B0_CAP0 (io), 46 PIO1_6/RXD/CT32B0_MAT0 (io), 47 PIO1_7/TXD/CT32B0_MAT1 (io), 48 PIO3_3/~{RI} (io)

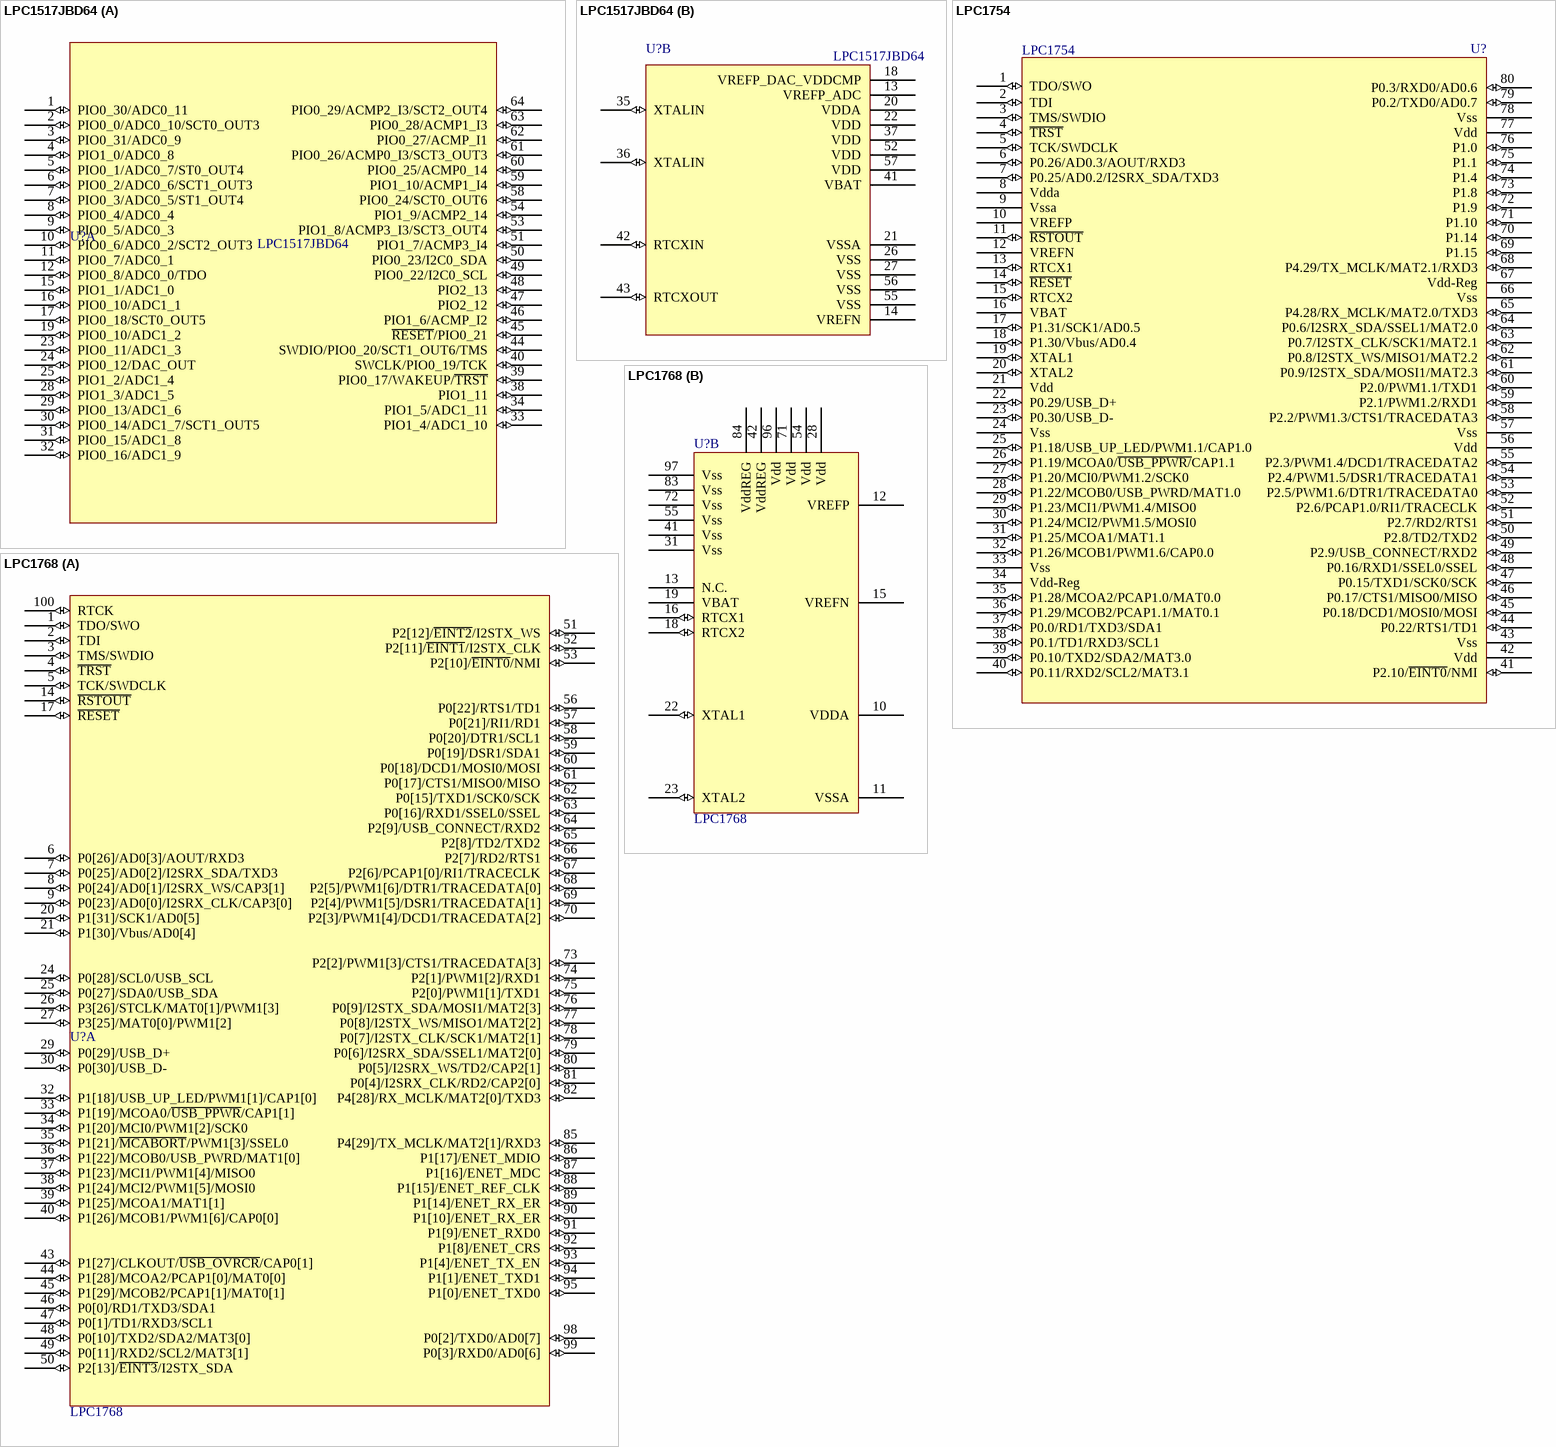
[diagram p7: symbols LPC1517JBD64 to LPC1768]

## LPC1517JBD64
designator U?
NXP 32bit ARM Cortex-M3 microcontroller; up to 256 kB flash; Value: LPC1517JBD64
footprint LQFP64 (LQFP, 64-Leads, Body 12,2x12,2mm (max), Pitch 0,50mm, IPC Low Density)
part A pins: 1 PIO0_30/ADC0_11 (io), 2 PIO0_0/ADC0_10/SCT0_OUT3 (io), 3 PIO0_31/ADC0_9 (io), 4 PIO1_0/ADC0_8 (io), 5 PIO0_1/ADC0_7/ST0_OUT4 (io), 6 PIO0_2/ADC0_6/SCT1_OUT3 (io), 7 PIO0_3/ADC0_5/ST1_OUT4 (io), 8 PIO0_4/ADC0_4 (io), 9 PIO0_5/ADC0_3 (io), 10 PIO0_6/ADC0_2/SCT2_OUT3 (io), 11 PIO0_7/ADC0_1 (io), 12 PIO0_8/ADC0_0/TDO (io), 15 PIO1_1/ADC1_0 (io), 16 PIO0_10/ADC1_1 (io), 17 PIO0_18/SCT0_OUT5 (io), 19 PIO0_10/ADC1_2 (io), 23 PIO0_11/ADC1_3 (io), 24 PIO0_12/DAC_OUT (io), 25 PIO1_2/ADC1_4 (io), 28 PIO1_3/ADC1_5 (io), 29 PIO0_13/ADC1_6 (io), 30 PIO0_14/ADC1_7/SCT1_OUT5 (io), 31 PIO0_15/ADC1_8 (io), 32 PIO0_16/ADC1_9 (io), 33 PIO1_4/ADC1_10 (io), 34 PIO1_5/ADC1_11 (io), 38 PIO1_11 (io), 39 PIO0_17/WAKEUP/~{TRST} (io), 40 SWCLK/PIO0_19/TCK (io), 44 SWDIO/PIO0_20/SCT1_OUT6/TMS (io), 45 ~{RESET}/PIO0_21 (io), 46 PIO1_6/ACMP_I2 (io), 47 PIO2_12 (io), 48 PIO2_13 (io), 49 PIO0_22/I2C0_SCL (io), 50 PIO0_23/I2C0_SDA (io), 51 PIO1_7/ACMP3_I4 (io), 53 PIO1_8/ACMP3_I3/SCT3_OUT4 (io), 54 PIO1_9/ACMP2_14 (io), 58 PIO0_24/SCT0_OUT6 (io), 59 PIO1_10/ACMP1_I4 (io), 60 PIO0_25/ACMP0_14 (io), 61 PIO0_26/ACMP0_I3/SCT3_OUT3 (io), 62 PIO0_27/ACMP_I1 (io), 63 PIO0_28/ACMP1_I3 (io), 64 PIO0_29/ACMP2_I3/SCT2_OUT4 (io)
part B pins: 13 VREFP_ADC (power), 14 VREFN (power), 18 VREFP_DAC_VDDCMP (power), 20 VDDA (power), 21 VSSA (power), 22 VDD (power), 26 VSS (power), 27 VSS (power), 35 XTALIN (io), 36 XTALIN (io), 37 VDD (power), 41 VBAT (power), 42 RTCXIN (io), 43 RTCXOUT (io), 52 VDD (power), 55 VSS (power), 56 VSS (power), 57 VDD (power)

## LPC1754
designator U?
NXP 32bit Cortex-M3; Value: LPC1754; ComponentLink2Description: SMD
footprint LQFP80 (LQFP, 80-Leads, Body 12,00x12,00mm, Pitch 0,50mm, IPC Medium Density)
pins: 1 TDO/SWO (io), 2 TDI (io), 3 TMS/SWDIO (io), 4 ~{TRST} (io), 5 TCK/SWDCLK (io), 6 P0.26/AD0.3/AOUT/RXD3 (io), 7 P0.25/AD0.2/I2SRX_SDA/TXD3 (io), 8 Vdda, 9 Vssa (power), 10 VREFP (power), 11 ~{RSTOUT} (io), 12 VREFN (power), 13 RTCX1 (io), 14 ~{RESET} (io), 15 RTCX2 (io), 16 VBAT (power), 17 P1.31/SCK1/AD0.5 (io), 18 P1.30/Vbus/AD0.4 (io), 19 XTAL1 (io), 20 XTAL2 (io), 21 Vdd (power), 22 P0.29/USB_D+ (io), 23 P0.30/USB_D- (io), 24 Vss (power), 25 P1.18/USB_UP_LED/PWM1.1/CAP1.0 (io), 26 P1.19/MCOA0/~{USB_PPWR/}CAP1.1 (io), 27 P1.20/MCI0/PWM1.2/SCK0 (io), 28 P1.22/MCOB0/USB_PWRD/MAT1.0 (io), 29 P1.23/MCI1/PWM1.4/MISO0 (io), 30 P1.24/MCI2/PWM1.5/MOSI0 (io), 31 P1.25/MCOA1/MAT1.1 (io), 32 P1.26/MCOB1/PWM1.6/CAP0.0 (io), 33 Vss (power), 34 Vdd-Reg (power), 35 P1.28/MCOA2/PCAP1.0/MAT0.0 (io), 36 P1.29/MCOB2/PCAP1.1/MAT0.1 (io), 37 P0.0/RD1/TXD3/SDA1 (io), 38 P0.1/TD1/RXD3/SCL1 (io), 39 P0.10/TXD2/SDA2/MAT3.0 (io), 40 P0.11/RXD2/SCL2/MAT3.1 (io), 41 P2.10/~{EINT0}/NMI (io), 42 Vdd (power), 43 Vss (power), 44 P0.22/RTS1/TD1 (io), 45 P0.18/DCD1/MOSI0/MOSI (io), 46 P0.17/CTS1/MISO0/MISO (io), 47 P0.15/TXD1/SCK0/SCK (io), 48 P0.16/RXD1/SSEL0/SSEL (io), 49 P2.9/USB_CONNECT/RXD2 (io), 50 P2.8/TD2/TXD2 (io), 51 P2.7/RD2/RTS1 (io), 52 P2.6/PCAP1.0/RI1/TRACECLK (io), 53 P2.5/PWM1.6/DTR1/TRACEDATA0 (io), 54 P2.4/PWM1.5/DSR1/TRACEDATA1 (io), 55 P2.3/PWM1.4/DCD1/TRACEDATA2 (io), 56 Vdd (power), 57 Vss (power), 58 P2.2/PWM1.3/CTS1/TRACEDATA3 (io), 59 P2.1/PWM1.2/RXD1 (io), 60 P2.0/PWM1.1/TXD1 (io), 61 P0.9/I2STX_SDA/MOSI1/MAT2.3 (io), 62 P0.8/I2STX_WS/MISO1/MAT2.2 (io), 63 P0.7/I2STX_CLK/SCK1/MAT2.1 (io), 64 P0.6/I2SRX_SDA/SSEL1/MAT2.0 (io), 65 P4.28/RX_MCLK/MAT2.0/TXD3 (io), 66 Vss (power), 67 Vdd-Reg (power), 68 P4.29/TX_MCLK/MAT2.1/RXD3 (io), 69 P1.15 (io), 70 P1.14 (io), 71 P1.10 (io), 72 P1.9 (io), 73 P1.8 (io), 74 P1.4 (io), 75 P1.1 (io), 76 P1.0 (io), 77 Vdd (power), 78 Vss (power), 79 P0.2/TXD0/AD0.7 (io), 80 P0.3/RXD0/AD0.6 (io)

## LPC1768
designator U?
NXP 32bit Cortex-M3; Value: LPC1768
footprint LQFP100 (LQFP, 100-Leads, Body 14,00x14,00mm, Pitch 0,50mm, IPC Low Density)
part A pins: 1 TDO/SWO (io), 2 TDI (io), 3 TMS/SWDIO (io), 4 ~{TRST} (io), 5 TCK/SWDCLK (io), 6 P0[26]/AD0[3]/AOUT/RXD3 (io), 7 P0[25]/AD0[2]/I2SRX_SDA/TXD3 (io), 8 P0[24]/AD0[1]/I2SRX_WS/CAP3[1] (io), 9 P0[23]/AD0[0]/I2SRX_CLK/CAP3[0] (io), 14 ~{RSTOUT} (io), 17 ~{RESET} (io), 20 P1[31]/SCK1/AD0[5] (io), 21 P1[30]/Vbus/AD0[4] (io), 24 P0[28]/SCL0/USB_SCL (io), 25 P0[27]/SDA0/USB_SDA (io), 26 P3[26]/STCLK/MAT0[1]/PWM1[3] (io), 27 P3[25]/MAT0[0]/PWM1[2] (io), 29 P0[29]/USB_D+ (io), 30 P0[30]/USB_D- (io), 32 P1[18]/USB_UP_LED/PWM1[1]/CAP1[0] (io), 33 P1[19]/MCOA0/~{USB_PPWR}/CAP1[1] (io), 34 P1[20]/MCI0/PWM1[2]/SCK0 (io), 35 P1[21]/~{MCABORT}/PWM1[3]/SSEL0 (io), 36 P1[22]/MCOB0/USB_PWRD/MAT1[0] (io), 37 P1[23]/MCI1/PWM1[4]/MISO0 (io), 38 P1[24]/MCI2/PWM1[5]/MOSI0 (io), 39 P1[25]/MCOA1/MAT1[1] (io), 40 P1[26]/MCOB1/PWM1[6]/CAP0[0] (io), 43 P1[27]/CLKOUT/~{USB_OVRCR}/CAP0[1] (io), 44 P1[28]/MCOA2/PCAP1[0]/MAT0[0] (io), 45 P1[29]/MCOB2/PCAP1[1]/MAT0[1] (io), 46 P0[0]/RD1/TXD3/SDA1 (io), 47 P0[1]/TD1/RXD3/SCL1 (io), 48 P0[10]/TXD2/SDA2/MAT3[0] (io), 49 P0[11]/RXD2/SCL2/MAT3[1] (io), 50 P2[13]/~{EINT3}/I2STX_SDA (io), 51 P2[12]/~{EINT2}/I2STX_WS (io), 52 P2[11]/~{EINT1}/I2STX_CLK (io), 53 P2[10]/~{EINT0}/NMI (io), 56 P0[22]/RTS1/TD1 (io), 57 P0[21]/RI1/RD1 (io), 58 P0[20]/DTR1/SCL1 (io), 59 P0[19]/DSR1/SDA1 (io), 60 P0[18]/DCD1/MOSI0/MOSI (io), 61 P0[17]/CTS1/MISO0/MISO (io), 62 P0[15]/TXD1/SCK0/SCK (io), 63 P0[16]/RXD1/SSEL0/SSEL (io), 64 P2[9]/USB_CONNECT/RXD2 (io), 65 P2[8]/TD2/TXD2 (io), 66 P2[7]/RD2/RTS1 (io), 67 P2[6]/PCAP1[0]/RI1/TRACECLK (io), 68 P2[5]/PWM1[6]/DTR1/TRACEDATA[0] (io), 69 P2[4]/PWM1[5]/DSR1/TRACEDATA[1] (io), 70 P2[3]/PWM1[4]/DCD1/TRACEDATA[2] (io), 73 P2[2]/PWM1[3]/CTS1/TRACEDATA[3] (io), 74 P2[1]/PWM1[2]/RXD1 (io), 75 P2[0]/PWM1[1]/TXD1 (io), 76 P0[9]/I2STX_SDA/MOSI1/MAT2[3] (io), 77 P0[8]/I2STX_WS/MISO1/MAT2[2] (io), 78 P0[7]/I2STX_CLK/SCK1/MAT2[1] (io), 79 P0[6]/I2SRX_SDA/SSEL1/MAT2[0] (io), 80 P0[5]/I2SRX_WS/TD2/CAP2[1] (io), 81 P0[4]/I2SRX_CLK/RD2/CAP2[0] (io), 82 P4[28]/RX_MCLK/MAT2[0]/TXD3 (io), 85 P4[29]/TX_MCLK/MAT2[1]/RXD3 (io), 86 P1[17]/ENET_MDIO (io), 87 P1[16]/ENET_MDC (io), 88 P1[15]/ENET_REF_CLK (io), 89 P1[14]/ENET_RX_ER (io), 90 P1[10]/ENET_RX_ER (io), 91 P1[9]/ENET_RXD0 (io), 92 P1[8]/ENET_CRS (io), 93 P1[4]/ENET_TX_EN (io), 94 P1[1]/ENET_TXD1 (io), 95 P1[0]/ENET_TXD0 (io), 98 P0[2]/TXD0/AD0[7] (io), 99 P0[3]/RXD0/AD0[6] (io), 100 RTCK (io)
part B pins: 10 VDDA (power), 11 VSSA (power), 12 VREFP (power), 13 N.C., 15 VREFN (power), 16 RTCX1 (io), 18 RTCX2 (io), 19 VBAT (power), 22 XTAL1 (io), 23 XTAL2 (io), 28 Vdd (power), 31 Vss (power), 41 Vss (power), 42 VddREG (power), 54 Vdd (power), 55 Vss (power), 71 Vdd (power), 72 Vss (power), 83 Vss (power), 84 VddREG (power), 96 Vdd (power), 97 Vss (power)

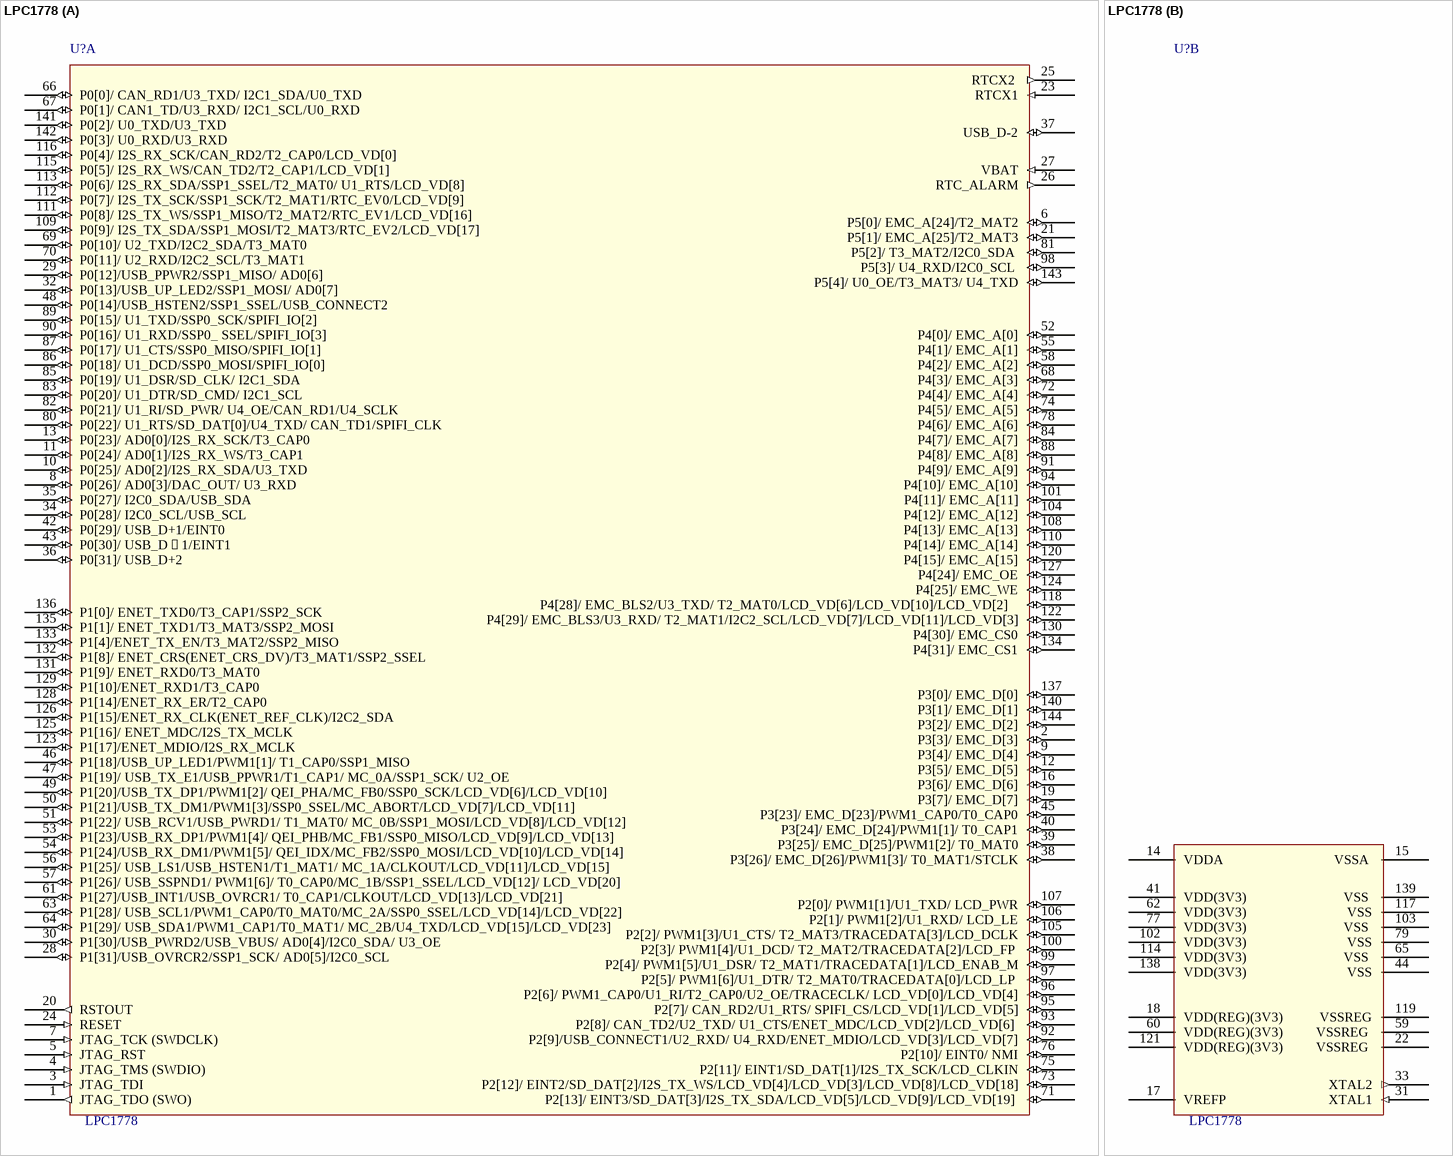
[diagram p8: symbol LPC1778]

## LPC1778
designator U?
NXP 32bit Cortex-M3; Value: LPC1778
footprint LQFP144 (TSQFP, 144-Leads, Body 20,00x20,00mm, Pitch 0,50mm, IPC Medium Density)
part A pins: 1 JTAG_TDO (SWO) (out), 2 P3[3]/ EMC_D[3] (io), 3 JTAG_TDI (in), 4 JTAG_TMS (SWDIO) (in), 5 JTAG_RST  (in), 6 P5[0]/ EMC_A[24]/T2_MAT2 (io), 7 JTAG_TCK (SWDCLK) (in), 8 P0[26]/ AD0[3]/DAC_OUT/ U3_RXD (io), 9 P3[4]/ EMC_D[4] (io), 10 P0[25]/ AD0[2]/I2S_RX_SDA/U3_TXD (io), 11 P0[24]/ AD0[1]/I2S_RX_WS/T3_CAP1 (io), 12 P3[5]/ EMC_D[5] (io), 13 P0[23]/ AD0[0]/I2S_RX_SCK/T3_CAP0 (io), 16 P3[6]/ EMC_D[6] (io), 19 P3[7]/ EMC_D[7] (io), 20 RSTOUT (out), 21 P5[1]/ EMC_A[25]/T2_MAT3 (io), 23 RTCX1 (in), 24 RESET (in), 25 RTCX2  (out), 26 RTC_ALARM (out), 27 VBAT (in), 28 P1[31]/USB_OVRCR2/SSP1_SCK/ AD0[5]/I2C0_SCL (io), 29 P0[12]/USB_PPWR2/SSP1_MISO/ AD0[6] (io), 30 P1[30]/USB_PWRD2/USB_VBUS/ AD0[4]/I2C0_SDA/ U3_OE (io), 32 P0[13]/USB_UP_LED2/SSP1_MOSI/ AD0[7] (io), 34 P0[28]/ I2C0_SCL/USB_SCL (io), 35 P0[27]/ I2C0_SDA/USB_SDA (io), 36 P0[31]/ USB_D+2 (io), 37 USB_D-2 (io), 38 P3[26]/ EMC_D[26]/PWM1[3]/ T0_MAT1/STCLK (io), 39 P3[25]/ EMC_D[25]/PWM1[2]/ T0_MAT0 (io), 40 P3[24]/ EMC_D[24]/PWM1[1]/ T0_CAP1 (io), 42 P0[29]/ USB_D+1/EINT0 (io), 43 P0[30]/ USB_D1/EINT1 (io), 45 P3[23]/ EMC_D[23]/PWM1_CAP0/T0_CAP0 (io), 46 P1[18]/USB_UP_LED1/PWM1[1]/ T1_CAP0/SSP1_MISO (io), 47 P1[19]/ USB_TX_E1/USB_PPWR1/T1_CAP1/ MC_0A/SSP1_SCK/ U2_OE (io), 48 P0[14]/USB_HSTEN2/SSP1_SSEL/USB_CONNECT2 (io), 49 P1[20]/USB_TX_DP1/PWM1[2]/ QEI_PHA/MC_FB0/SSP0_SCK/LCD_VD[6]/LCD_VD[10] (io), 50 P1[21]/USB_TX_DM1/PWM1[3]/SSP0_SSEL/MC_ABORT/LCD_VD[7]/LCD_VD[11] (io), 51 P1[22]/ USB_RCV1/USB_PWRD1/ T1_MAT0/ MC_0B/SSP1_MOSI/LCD_VD[8]/LCD_VD[12] (io), 52 P4[0]/ EMC_A[0] (io), 53 P1[23]/USB_RX_DP1/PWM1[4]/ QEI_PHB/MC_FB1/SSP0_MISO/LCD_VD[9]/LCD_VD[13] (io), 54 P1[24]/USB_RX_DM1/PWM1[5]/ QEI_IDX/MC_FB2/SSP0_MOSI/LCD_VD[10]/LCD_VD[14] (io), 55 P4[1]/ EMC_A[1] (io), 56 P1[25]/ USB_LS1/USB_HSTEN1/T1_MAT1/ MC_1A/CLKOUT/LCD_VD[11]/LCD_VD[15] (io), 57 P1[26]/ USB_SSPND1/ PWM1[6]/ T0_CAP0/MC_1B/SSP1_SSEL/LCD_VD[12]/ LCD_VD[20] (io), 58 P4[2]/ EMC_A[2] (io), 61 P1[27]/USB_INT1/USB_OVRCR1/ T0_CAP1/CLKOUT/LCD_VD[13]/LCD_VD[21] (io), 63 P1[28]/ USB_SCL1/PWM1_CAP0/T0_MAT0/MC_2A/SSP0_SSEL/LCD_VD[14]/LCD_VD[22] (io), 64 P1[29]/ USB_SDA1/PWM1_CAP1/T0_MAT1/ MC_2B/U4_TXD/LCD_VD[15]/LCD_VD[23] (io), 66 P0[0]/ CAN_RD1/U3_TXD/ I2C1_SDA/U0_TXD (io), 67 P0[1]/ CAN1_TD/U3_RXD/ I2C1_SCL/U0_RXD (io), 68 P4[3]/ EMC_A[3] (io), 69 P0[10]/ U2_TXD/I2C2_SDA/T3_MAT0 (io), 70 P0[11]/ U2_RXD/I2C2_SCL/T3_MAT1 (io), 71 P2[13]/ EINT3/SD_DAT[3]/I2S_TX_SDA/LCD_VD[5]/LCD_VD[9]/LCD_VD[19]  (io), 72 P4[4]/ EMC_A[4] (io), 73 P2[12]/ EINT2/SD_DAT[2]/I2S_TX_WS/LCD_VD[4]/LCD_VD[3]/LCD_VD[8]/LCD_VD[18] (io), 74 P4[5]/ EMC_A[5] (io), 75 P2[11]/ EINT1/SD_DAT[1]/I2S_TX_SCK/LCD_CLKIN (io), 76 P2[10]/ EINT0/ NMI (io), 78 P4[6]/ EMC_A[6] (io), 80 P0[22]/ U1_RTS/SD_DAT[0]/U4_TXD/ CAN_TD1/SPIFI_CLK (io), 81 P5[2]/ T3_MAT2/I2C0_SDA  (io), 82 P0[21]/ U1_RI/SD_PWR/ U4_OE/CAN_RD1/U4_SCLK (io), 83 P0[20]/ U1_DTR/SD_CMD/ I2C1_SCL (io), 84 P4[7]/ EMC_A[7] (io), 85 P0[19]/ U1_DSR/SD_CLK/ I2C1_SDA (io), 86 P0[18]/ U1_DCD/SSP0_MOSI/SPIFI_IO[0] (io), 87 P0[17]/ U1_CTS/SSP0_MISO/SPIFI_IO[1] (io), 88 P4[8]/ EMC_A[8] (io), 89 P0[15]/ U1_TXD/SSP0_SCK/SPIFI_IO[2] (io), 90 P0[16]/ U1_RXD/SSP0_ SSEL/SPIFI_IO[3] (io), 91 P4[9]/ EMC_A[9] (io), 92 P2[9]/USB_CONNECT1/U2_RXD/ U4_RXD/ENET_MDIO/LCD_VD[3]/LCD_VD[7] (io), 93 P2[8]/ CAN_TD2/U2_TXD/ U1_CTS/ENET_MDC/LCD_VD[2]/LCD_VD[6]  (io), 94 P4[10]/ EMC_A[10] (io), 95 P2[7]/ CAN_RD2/U1_RTS/ SPIFI_CS/LCD_VD[1]/LCD_VD[5] (io), 96 P2[6]/ PWM1_CAP0/U1_RI/T2_CAP0/U2_OE/TRACECLK/ LCD_VD[0]/LCD_VD[4] (io), 97 P2[5]/ PWM1[6]/U1_DTR/ T2_MAT0/TRACEDATA[0]/LCD_LP  (io), 98 P5[3]/ U4_RXD/I2C0_SCL  (io), 99 P2[4]/ PWM1[5]/U1_DSR/ T2_MAT1/TRACEDATA[1]/LCD_ENAB_M (io), 100 P2[3]/ PWM1[4]/U1_DCD/ T2_MAT2/TRACEDATA[2]/LCD_FP  (io), 101 P4[11]/ EMC_A[11] (io), 104 P4[12]/ EMC_A[12] (io), 105 P2[2]/ PWM1[3]/U1_CTS/ T2_MAT3/TRACEDATA[3]/LCD_DCLK (io), 106 P2[1]/ PWM1[2]/U1_RXD/ LCD_LE (io), 107 P2[0]/ PWM1[1]/U1_TXD/ LCD_PWR (io), 108 P4[13]/ EMC_A[13] (io), 109 P0[9]/ I2S_TX_SDA/SSP1_MOSI/T2_MAT3/RTC_EV2/LCD_VD[17] (io), 110 P4[14]/ EMC_A[14] (io), 111 P0[8]/ I2S_TX_WS/SSP1_MISO/T2_MAT2/RTC_EV1/LCD_VD[16] (io), 112 P0[7]/ I2S_TX_SCK/SSP1_SCK/T2_MAT1/RTC_EV0/LCD_VD[9] (io), 113 P0[6]/ I2S_RX_SDA/SSP1_SSEL/T2_MAT0/ U1_RTS/LCD_VD[8] (io), 115 P0[5]/ I2S_RX_WS/CAN_TD2/T2_CAP1/LCD_VD[1] (io), 116 P0[4]/ I2S_RX_SCK/CAN_RD2/T2_CAP0/LCD_VD[0] (io), 118 P4[28]/ EMC_BLS2/U3_TXD/ T2_MAT0/LCD_VD[6]/LCD_VD[10]/LCD_VD[2]    (io), 120 P4[15]/ EMC_A[15] (io), 122 P4[29]/ EMC_BLS3/U3_RXD/ T2_MAT1/I2C2_SCL/LCD_VD[7]/LCD_VD[11]/LCD_VD[3] (io), 123 P1[17]/ENET_MDIO/I2S_RX_MCLK (io), 124 P4[25]/ EMC_WE (io), 125 P1[16]/ ENET_MDC/I2S_TX_MCLK (io), 126 P1[15]/ENET_RX_CLK(ENET_REF_CLK)/I2C2_SDA (io), 127 P4[24]/ EMC_OE (io), 128 P1[14]/ENET_RX_ER/T2_CAP0 (io), 129 P1[10]/ENET_RXD1/T3_CAP0 (io), 130 P4[30]/ EMC_CS0 (io), 131 P1[9]/ ENET_RXD0/T3_MAT0 (io), 132 P1[8]/ ENET_CRS(ENET_CRS_DV)/T3_MAT1/SSP2_SSEL (io), 133 P1[4]/ENET_TX_EN/T3_MAT2/SSP2_MISO (io), 134 P4[31]/ EMC_CS1 (io), 135 P1[1]/ ENET_TXD1/T3_MAT3/SSP2_MOSI (io), 136 P1[0]/ ENET_TXD0/T3_CAP1/SSP2_SCK (io), 137 P3[0]/ EMC_D[0] (io), 140 P3[1]/ EMC_D[1] (io), 141 P0[2]/ U0_TXD/U3_TXD (io), 142 P0[3]/ U0_RXD/U3_RXD (io), 143 P5[4]/ U0_OE/T3_MAT3/ U4_TXD (io), 144 P3[2]/ EMC_D[2] (io)
part B pins: 14 VDDA (power), 15 VSSA  (power), 17 VREFP (power), 18 VDD(REG)(3V3) (power), 22 VSSREG  (power), 31 XTAL1 (in), 33 XTAL2 (out), 41 VDD(3V3) (power), 44 VSS (power), 59 VSSREG  (power), 60 VDD(REG)(3V3) (power), 62 VDD(3V3) (power), 65 VSS  (power), 77 VDD(3V3) (power), 79 VSS (power), 102 VDD(3V3)  (power), 103 VSS  (power), 114 VDD(3V3) (power), 117 VSS (power), 119 VSSREG (power), 121 VDD(REG)(3V3) (power), 138 VDD(3V3) (power), 139 VSS  (power)

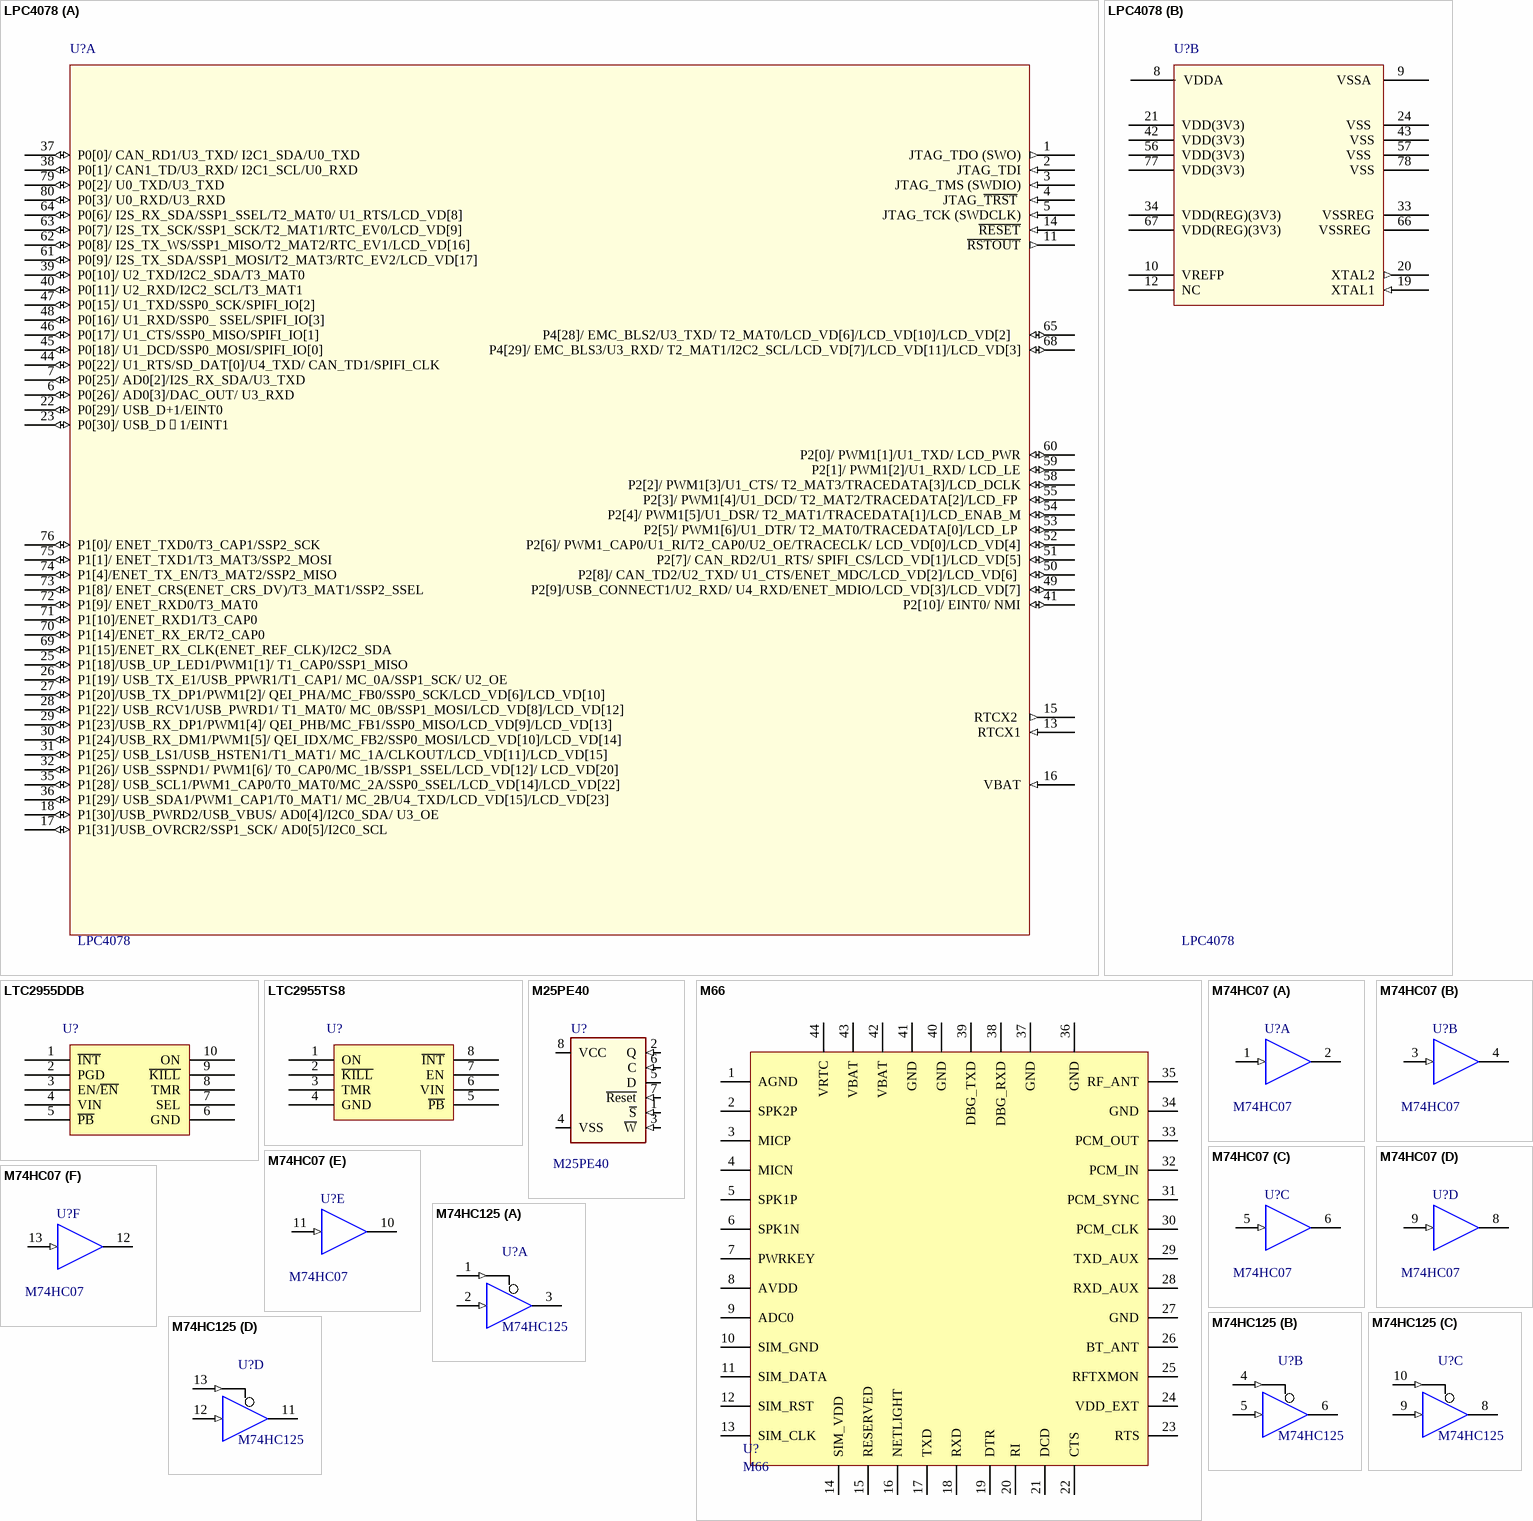
[diagram p9: symbols LPC4078 to M74HC125]

## LPC4078
designator U?
NXP 32bit Cortex-M3, LPC4000 series-80 pin; Value: LPC4078
part A pins: 1 JTAG_TDO (SWO) (out), 2 JTAG_TDI (in), 3 JTAG_TMS (SWDIO) (in), 4 JTAG_~{TRST}  (in), 5 JTAG_TCK (SWDCLK) (in), 6 P0[26]/ AD0[3]/DAC_OUT/ U3_RXD (io), 7 P0[25]/ AD0[2]/I2S_RX_SDA/U3_TXD (io), 11 ~{RSTOUT} (out), 13 RTCX1 (in), 14 ~{RESET} (in), 15 RTCX2  (out), 16 VBAT (in), 17 P1[31]/USB_OVRCR2/SSP1_SCK/ AD0[5]/I2C0_SCL (io), 18 P1[30]/USB_PWRD2/USB_VBUS/ AD0[4]/I2C0_SDA/ U3_OE (io), 22 P0[29]/ USB_D+1/EINT0 (io), 23 P0[30]/ USB_D1/EINT1 (io), 25 P1[18]/USB_UP_LED1/PWM1[1]/ T1_CAP0/SSP1_MISO (io), 26 P1[19]/ USB_TX_E1/USB_PPWR1/T1_CAP1/ MC_0A/SSP1_SCK/ U2_OE (io), 27 P1[20]/USB_TX_DP1/PWM1[2]/ QEI_PHA/MC_FB0/SSP0_SCK/LCD_VD[6]/LCD_VD[10] (io), 28 P1[22]/ USB_RCV1/USB_PWRD1/ T1_MAT0/ MC_0B/SSP1_MOSI/LCD_VD[8]/LCD_VD[12] (io), 29 P1[23]/USB_RX_DP1/PWM1[4]/ QEI_PHB/MC_FB1/SSP0_MISO/LCD_VD[9]/LCD_VD[13] (io), 30 P1[24]/USB_RX_DM1/PWM1[5]/ QEI_IDX/MC_FB2/SSP0_MOSI/LCD_VD[10]/LCD_VD[14] (io), 31 P1[25]/ USB_LS1/USB_HSTEN1/T1_MAT1/ MC_1A/CLKOUT/LCD_VD[11]/LCD_VD[15] (io), 32 P1[26]/ USB_SSPND1/ PWM1[6]/ T0_CAP0/MC_1B/SSP1_SSEL/LCD_VD[12]/ LCD_VD[20] (io), 35 P1[28]/ USB_SCL1/PWM1_CAP0/T0_MAT0/MC_2A/SSP0_SSEL/LCD_VD[14]/LCD_VD[22] (io), 36 P1[29]/ USB_SDA1/PWM1_CAP1/T0_MAT1/ MC_2B/U4_TXD/LCD_VD[15]/LCD_VD[23] (io), 37 P0[0]/ CAN_RD1/U3_TXD/ I2C1_SDA/U0_TXD (io), 38 P0[1]/ CAN1_TD/U3_RXD/ I2C1_SCL/U0_RXD (io), 39 P0[10]/ U2_TXD/I2C2_SDA/T3_MAT0 (io), 40 P0[11]/ U2_RXD/I2C2_SCL/T3_MAT1 (io), 41 P2[10]/ EINT0/ NMI (io), 44 P0[22]/ U1_RTS/SD_DAT[0]/U4_TXD/ CAN_TD1/SPIFI_CLK (io), 45 P0[18]/ U1_DCD/SSP0_MOSI/SPIFI_IO[0] (io), 46 P0[17]/ U1_CTS/SSP0_MISO/SPIFI_IO[1] (io), 47 P0[15]/ U1_TXD/SSP0_SCK/SPIFI_IO[2] (io), 48 P0[16]/ U1_RXD/SSP0_ SSEL/SPIFI_IO[3] (io), 49 P2[9]/USB_CONNECT1/U2_RXD/ U4_RXD/ENET_MDIO/LCD_VD[3]/LCD_VD[7] (io), 50 P2[8]/ CAN_TD2/U2_TXD/ U1_CTS/ENET_MDC/LCD_VD[2]/LCD_VD[6]  (io), 51 P2[7]/ CAN_RD2/U1_RTS/ SPIFI_CS/LCD_VD[1]/LCD_VD[5] (io), 52 P2[6]/ PWM1_CAP0/U1_RI/T2_CAP0/U2_OE/TRACECLK/ LCD_VD[0]/LCD_VD[4] (io), 53 P2[5]/ PWM1[6]/U1_DTR/ T2_MAT0/TRACEDATA[0]/LCD_LP  (io), 54 P2[4]/ PWM1[5]/U1_DSR/ T2_MAT1/TRACEDATA[1]/LCD_ENAB_M (io), 55 P2[3]/ PWM1[4]/U1_DCD/ T2_MAT2/TRACEDATA[2]/LCD_FP  (io), 58 P2[2]/ PWM1[3]/U1_CTS/ T2_MAT3/TRACEDATA[3]/LCD_DCLK (io), 59 P2[1]/ PWM1[2]/U1_RXD/ LCD_LE (io), 60 P2[0]/ PWM1[1]/U1_TXD/ LCD_PWR (io), 61 P0[9]/ I2S_TX_SDA/SSP1_MOSI/T2_MAT3/RTC_EV2/LCD_VD[17] (io), 62 P0[8]/ I2S_TX_WS/SSP1_MISO/T2_MAT2/RTC_EV1/LCD_VD[16] (io), 63 P0[7]/ I2S_TX_SCK/SSP1_SCK/T2_MAT1/RTC_EV0/LCD_VD[9] (io), 64 P0[6]/ I2S_RX_SDA/SSP1_SSEL/T2_MAT0/ U1_RTS/LCD_VD[8] (io), 65 P4[28]/ EMC_BLS2/U3_TXD/ T2_MAT0/LCD_VD[6]/LCD_VD[10]/LCD_VD[2]    (io), 68 P4[29]/ EMC_BLS3/U3_RXD/ T2_MAT1/I2C2_SCL/LCD_VD[7]/LCD_VD[11]/LCD_VD[3] (io), 69 P1[15]/ENET_RX_CLK(ENET_REF_CLK)/I2C2_SDA (io), 70 P1[14]/ENET_RX_ER/T2_CAP0 (io), 71 P1[10]/ENET_RXD1/T3_CAP0 (io), 72 P1[9]/ ENET_RXD0/T3_MAT0 (io), 73 P1[8]/ ENET_CRS(ENET_CRS_DV)/T3_MAT1/SSP2_SSEL (io), 74 P1[4]/ENET_TX_EN/T3_MAT2/SSP2_MISO (io), 75 P1[1]/ ENET_TXD1/T3_MAT3/SSP2_MOSI (io), 76 P1[0]/ ENET_TXD0/T3_CAP1/SSP2_SCK (io), 79 P0[2]/ U0_TXD/U3_TXD (io), 80 P0[3]/ U0_RXD/U3_RXD (io)
part B pins: 8 VDDA (power), 9 VSSA  (power), 10 VREFP (power), 12 NC, 19 XTAL1 (in), 20 XTAL2 (out), 21 VDD(3V3) (power), 24 VSS  (power), 33 VSSREG (power), 34 VDD(REG)(3V3) (power), 42 VDD(3V3) (power), 43 VSS (power), 56 VDD(3V3) (power), 57 VSS  (power), 66 VSSREG  (power), 67 VDD(REG)(3V3) (power), 77 VDD(3V3)  (power), 78 VSS (power)

## LTC2955DDB
designator U?  (value not drawn)
On/Off Controller with Automatic  Turn-On; LatestRevisionDate: 03-Mar-2016; LatestRevisionNote: New designed for DXP Platform; PackageDescription: 10 pin  DFN pitch=0.50mm; PackageReference: DFN-10; Published: 03-Mar-2016; Publisher: Tum; Value: LTC2955DDB; Digikey Part Number: *
footprint ODFN 10 pin (TSOP, 8-Leads, Body 3x3mm, Pitch 0.65mm, IPC High Density)
pins: 1 ~{INT}, 2 PGD, 3 EN/~{EN}, 4 VIN, 5 ~{PB}, 6 GND, 7 SEL, 8 TMR, 9 ~{KILL}, 10 ON

## LTC2955TS8
designator U?  (value not drawn)
On/Off Controller with Automatic  Turn-On; LatestRevisionDate: 03-Mar-2016; LatestRevisionNote: New designed for DXP Platform; PackageDescription: 8 pin T-SOT-23-8 pitch=0.65mm; PackageReference: SOT23-8; Published: 03-Mar-2016; Publisher: Tum; Value: LTC2955TS8; Digikey Part Number: *
footprint SOT23-8 (SOT 8-Leads, Body 2,90x1,60mm, Pitch 1,27mm, IPC Medium Density)
pins: 1 ON, 2 ~{KILL}, 3 TMR, 4 GND, 5 ~{PB}, 6 VIN, 7 EN, 8 ~{INT}

## M25PE40
designator U?
Serial SPI 4Mbit Flash; Producer: Numonyx; ComponentLink2Description: SMD; Value: M25PE40
footprint SOIC8W (SOIC, 8-Leads, Body 6,1x6,2mm (max), Pitch 1,27mm, IPC Low Density)
pins: 1 ~{S} (in), 2 Q (in), 3 ~{W} (in), 4 VSS (power), 5 D (io), 6 C (in), 7 ~{Reset} (in), 8 VCC (power)

## M66
designator U?
Quad-band GSM/GPRS module using LCC castellation packaging; Producer: Quectel; Value: M66; Datasheet: http://www.quectel.com/product/prodetail.aspx?id=73; ComponentLink2Description: SMD
footprint M66
pins: 1 AGND, 2 SPK2P, 3 MICP, 4 MICN, 5 SPK1P, 6 SPK1N, 7 PWRKEY, 8 AVDD, 9 ADC0, 10 SIM_GND, 11 SIM_DATA, 12 SIM_RST, 13 SIM_CLK, 14 SIM_VDD, 15 RESERVED, 16 NETLIGHT, 17 TXD, 18 RXD, 19 DTR, 20 RI, 21 DCD, 22 CTS, 23 RTS, 24 VDD_EXT, 25 RFTXMON, 26 BT_ANT, 27 GND, 28 RXD_AUX, 29 TXD_AUX, 30 PCM_CLK, 31 PCM_SYNC, 32 PCM_IN, 33 PCM_OUT, 34 GND, 35 RF_ANT, 36 GND, 37 GND, 38 DBG_RXD, 39 DBG_TXD, 40 GND, 41 GND, 42 VBAT, 43 VBAT, 44 VRTC

## M74HC07
designator U?
Hex Buffer (Open Drain); PackageReference: SO14; PackageDescription: 14-Pin Small Outline Integrated Circuit 1.27 mm Pitch; Code_IPC: SOIC127P600-14; ComponentLink1Description: Manufacturer Link; ComponentLink1URL: http://www.st.com/; ComponentLink2Description: SMD; Value: M74HC07
3D model SO14 (PCB3D Model)
signal-integrity model M74HC07M1R
footprint SOIC14 (SOIC, 14-Leads, Body 8,8x4,0mm (max), Pitch 1,27mm, IPC Low Density)
pins on every part: 7 GND (power) hidden to GND, 14 VCC (power) hidden to VCC
part A pins: 1 A (in), 2 Y (oc)
part B pins: 3 A (in), 4 Y (oc)
part C pins: 5 A (in), 6 Y (oc)
part D pins: 8 Y (oc), 9 A (in)
part E pins: 10 Y (oc), 11 A (in)
part F pins: 12 Y (oc), 13 A (in)

## M74HC125
designator U?
Quad Bus Buffer (3-State); Producer: ST; ComponentLink2Description: SMD; Value: M74HC125
3D model SO14 (PCB3D Model)
signal-integrity model M74HC125C1R
footprint SOIC14 (SOIC, 14-Leads, Body 8,8x4,0mm (max), Pitch 1,27mm, IPC Low Density)
pins on every part: 7 GND (power) hidden to GND, 14 VCC (power) hidden to VCC
part A pins: 1 ~{OE} (in), 2 A (in), 3 Y (hiz)
part B pins: 4 ~{OE} (in), 5 A (in), 6 Y (hiz)
part C pins: 8 Y (hiz), 9 A (in), 10 ~{OE} (in)
part D pins: 11 Y (hiz), 12 A (in), 13 ~{OE} (in)

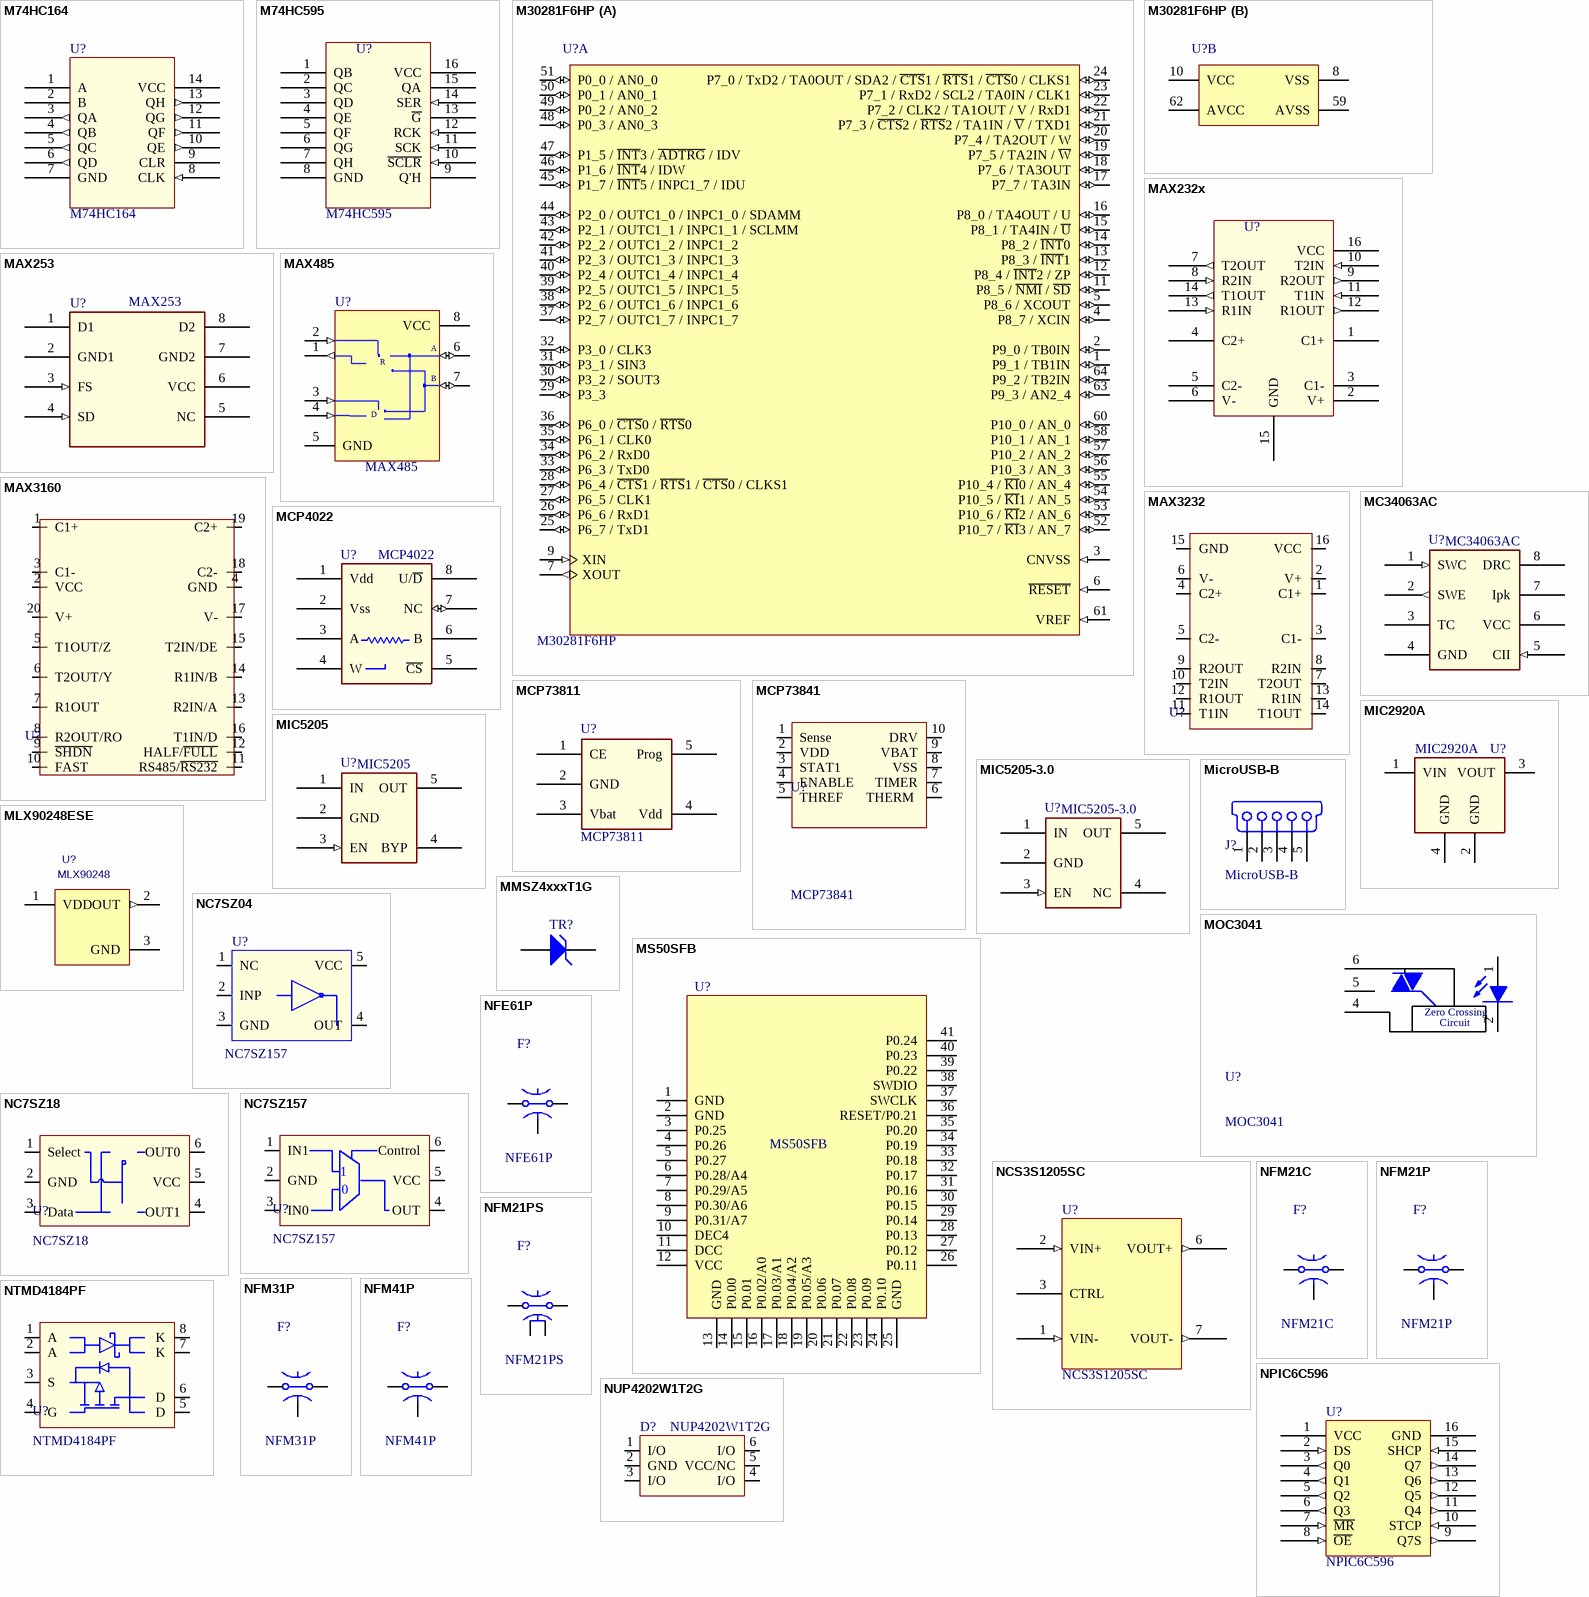
[diagram p10: symbols M74HC164 to NUP4202W1T2G]

## M74HC164
designator U?
8-Bit Serial-In, Parallel-Out Shift Register; ComponentLink2Description: SMD; Value: M74HC164
footprint SOIC14 (SOIC, 14-Leads, Body 8,8x4,0mm (max), Pitch 1,27mm, IPC Low Density)
pins: 1 A, 2 B, 3 QA (out), 4 QB (out), 5 QC (out), 6 QD (out), 7 GND (power), 8 CLK (in), 9 CLR, 10 QE (out), 11 QF (out), 12 QG (out), 13 QH (out), 14 VCC (power)

## M74HC595
designator U?
8-bit serial-in, serial or parallel-out shift register with output; ComponentLink2Description: SMD; Value: M74HC595
footprint SOIC16 (SOIC, 16-Leads, Body 10,0x4,0mm (max), Pitch 1,27mm, IPC Low Density)
pins: 1 QB, 2 QC, 3 QD, 4 QE, 5 QF, 6 QG (power), 7 QH, 8 GND (power), 9 Q'H, 10 ~{SCLR} (in) "\S\C\L\R", 11 SCK (in), 12 RCK (in), 13 ~{G} (power), 14 SER (in), 15 QA, 16 VCC (power)

## M30281F6HP
designator U?
M16C/Tiny Series, 28 Group MCU, 48K + 4K ROM, 4K RAM, 64P6Q-A Pkg; Producer: Renesas; DatasheetVersion: ver2.00, Jan-2007; PackageReference: LQFP64; PackageDescription: 64-Pin Plastic Low Profile QFP, 10 x 10 x 1.4 mm Body, 0.5 mm Pitch; Code_JEITA: P-LQFP64-10x10-0.50; Code_IPC: SQFP50P1200X1200-64; ComponentLink1Description: Manufacturer Link; ComponentLink1URL: http://sg.renesas.com/fmwk.jsp?cnt=m16c_family_landing.jsp&fp=/products/mpumcu/m16c_family/; ComponentLink2Description: Datasheet; ComponentLink2URL: http://documentation.renesas.com/eng/products/mpumcu/rej09b0047_16c28hm.pdf; ComponentLink2Description: SMD; Value: M30281F6HP
footprint LQFP64 (LQFP, 64-Leads, Body 12,2x12,2mm (max), Pitch 0,50mm, IPC Low Density)
part A pins: 1 P9_1 / TB1IN (io), 2 P9_0 / TB0IN (io), 3 CNVSS (in), 4 P8_7 / XCIN (io), 5 P8_6 / XCOUT (io), 6 ~{RESET} (in), 7 XOUT (out), 9 XIN (in), 11 P8_5 / ~{NMI} / ~{SD} (io), 12 P8_4 / ~{INT}2 / ZP (io), 13 P8_3 / ~{INT}1 (io), 14 P8_2 / ~{INT}0 (io), 15 P8_1 / TA4IN / ~{U} (io), 16 P8_0 / TA4OUT / U (io), 17 P7_7 / TA3IN (io), 18 P7_6 / TA3OUT (io), 19 P7_5 / TA2IN / ~{W} (io), 20 P7_4 / TA2OUT / W (io), 21 P7_3 / ~{CTS}2 / ~{RTS}2 / TA1IN / ~{V} / TXD1 (io), 22 P7_2 / CLK2 / TA1OUT / V / RxD1 (io), 23 P7_1 / RxD2 / SCL2 / TA0IN / CLK1 (io), 24 P7_0 / TxD2 / TA0OUT / SDA2 / ~{CTS}1 / ~{RTS}1 / ~{CTS}0 / CLKS1 (io), 25 P6_7 / TxD1 (io), 26 P6_6 / RxD1 (io), 27 P6_5 / CLK1 (io), 28 P6_4 / ~{CTS}1 / ~{RTS}1 / ~{CTS}0 / CLKS1 (io), 29 P3_3 (io), 30 P3_2 / SOUT3 (io), 31 P3_1 / SIN3 (io), 32 P3_0 / CLK3 (io), 33 P6_3 / TxD0 (io), 34 P6_2 / RxD0 (io), 35 P6_1 / CLK0 (io), 36 P6_0 / ~{CTS}0 / ~{RTS}0 (io), 37 P2_7 / OUTC1_7 / INPC1_7 (io), 38 P2_6 / OUTC1_6 / INPC1_6 (io), 39 P2_5 / OUTC1_5 / INPC1_5 (io), 40 P2_4 / OUTC1_4 / INPC1_4 (io), 41 P2_3 / OUTC1_3 / INPC1_3 (io), 42 P2_2 / OUTC1_2 / INPC1_2 (io), 43 P2_1 / OUTC1_1 / INPC1_1 / SCLMM (io), 44 P2_0 / OUTC1_0 / INPC1_0 / SDAMM (io), 45 P1_7 / ~{INT}5 / INPC1_7 / IDU (io), 46 P1_6 / ~{INT}4 / IDW (io), 47 P1_5 / ~{INT}3 / ~{ADTRG} / IDV (io), 48 P0_3 / AN0_3 (io), 49 P0_2 / AN0_2 (io), 50 P0_1 / AN0_1 (io), 51 P0_0 / AN0_0 (io), 52 P10_7 / ~{KI}3 / AN_7 (io), 53 P10_6 / ~{KI}2 / AN_6 (io), 54 P10_5 / ~{KI}1 / AN_5 (io), 55 P10_4 / ~{KI}0 / AN_4 (io), 56 P10_3 / AN_3 (io), 57 P10_2 / AN_2 (io), 58 P10_1 / AN_1 (io), 60 P10_0 / AN_0 (io), 61 VREF (in), 63 P9_3 / AN2_4 (io), 64 P9_2 / TB2IN (io)
part B pins: 8 VSS (power), 10 VCC (power), 59 AVSS (power), 62 AVCC (power)

## MAX232x
designator U?  (value not drawn)
MAX232x Dual EIA-232 Drivers/Receivers; Manufacterer: TI; ComponentLink2Description: SMD; Value: MAX232x; Datasheet: http://www.ti.com/lit/ds/symlink/max232.pdf
footprint SOIC16 (SOIC, 16-Leads, Body 10,0x4,0mm (max), Pitch 1,27mm, IPC Low Density)
pins: 1 C1+, 2 V+ (power), 3 C1-, 4 C2+, 5 C2-, 6 V- (power), 7 T2OUT (out), 8 R2IN (in), 9 R2OUT (out), 10 T2IN (in), 11 T1IN (in), 12 R1OUT (out), 13 R1IN (in), 14 T1OUT (out), 15 GND (power), 16 VCC (power)

## MAX253
designator U?
Transformer Driver for Isolated Interfaces; Producer: Maxim; ComponentLink3Description: EICMAX253; ComponentLink2Description: SMD; Value: MAX253
footprint SOIC8 (SOIC, 8-Leads, Body 5,0x4,0mm (max), Pitch 1,27mm, IPC Low Density)
pins: 1 D1 (oc), 2 GND1 (power), 3 FS (in), 4 SD (in), 5 NC, 6 VCC (power), 7 GND2 (power), 8 D2 (oc)

## MAX485
designator U?
Low-Power, Slew-Rate-Limited RS-485/RS-422 Transceiver; Producer: Maxim; ComponentLink2Description: SMD; Value: MAX485
footprint SOIC8 (SOIC, 8-Leads, Body 5,0x4,0mm (max), Pitch 1,27mm, IPC Low Density)
pins: 1 RO (out), 2 ~{RE} (in), 3 DE (in), 4 DI (in), 5 GND (power), 6 A (io), 7 B (io), 8 VCC (power)
text: R; D

## MAX3160
designator U?  (value not drawn)
+3.0V to+5.5V, 1µA, RS-232/  RS-485/422 Multiprotocol Transceivers; Value: MAX3160; ComponentLink2Description: SMD
footprint SSOP20 (SOP, 20-Leads, Body 7,20x5,30mm, Pitch 0,65mm, IPC Medium Density)
pins: 1 C1+, 2 VCC, 3 C1-, 4 GND, 5 T1OUT/Z, 6 T2OUT/Y, 7 R1OUT, 8 R2OUT/RO, 9 ~{SHDN}, 10 FAST, 11 RS485/~{RS232}, 12 HALF/~{FULL}, 13 R2IN/A, 14 R1IN/B, 15 T2IN/DE, 16 T1IN/D, 17 V-, 18 C2-, 19 C2+, 20 V+

## MAX3232
designator U?, comment MAX3232E  (value not drawn)
Dual RS232 Driver/Receiver
footprint TSSOP16 (TSSOP, 16-Leads, Body 5,00x4,40mm, Pitch 0,65mm, IPC Medium Density)
pins: 1 C1+, 2 V+, 3 C1-, 4 C2+, 5 C2-, 6 V-, 7 T2OUT, 8 R2IN, 9 R2OUT, 10 T2IN, 11 T1IN, 12 R1OUT, 13 R1IN, 14 T1OUT, 15 GND, 16 VCC